# Altium schematic symbol library UUSymbol.SchLib: 140 symbols (part 1 of 2)
Pins are listed as number, name and electrical type; pins without a type are passive.

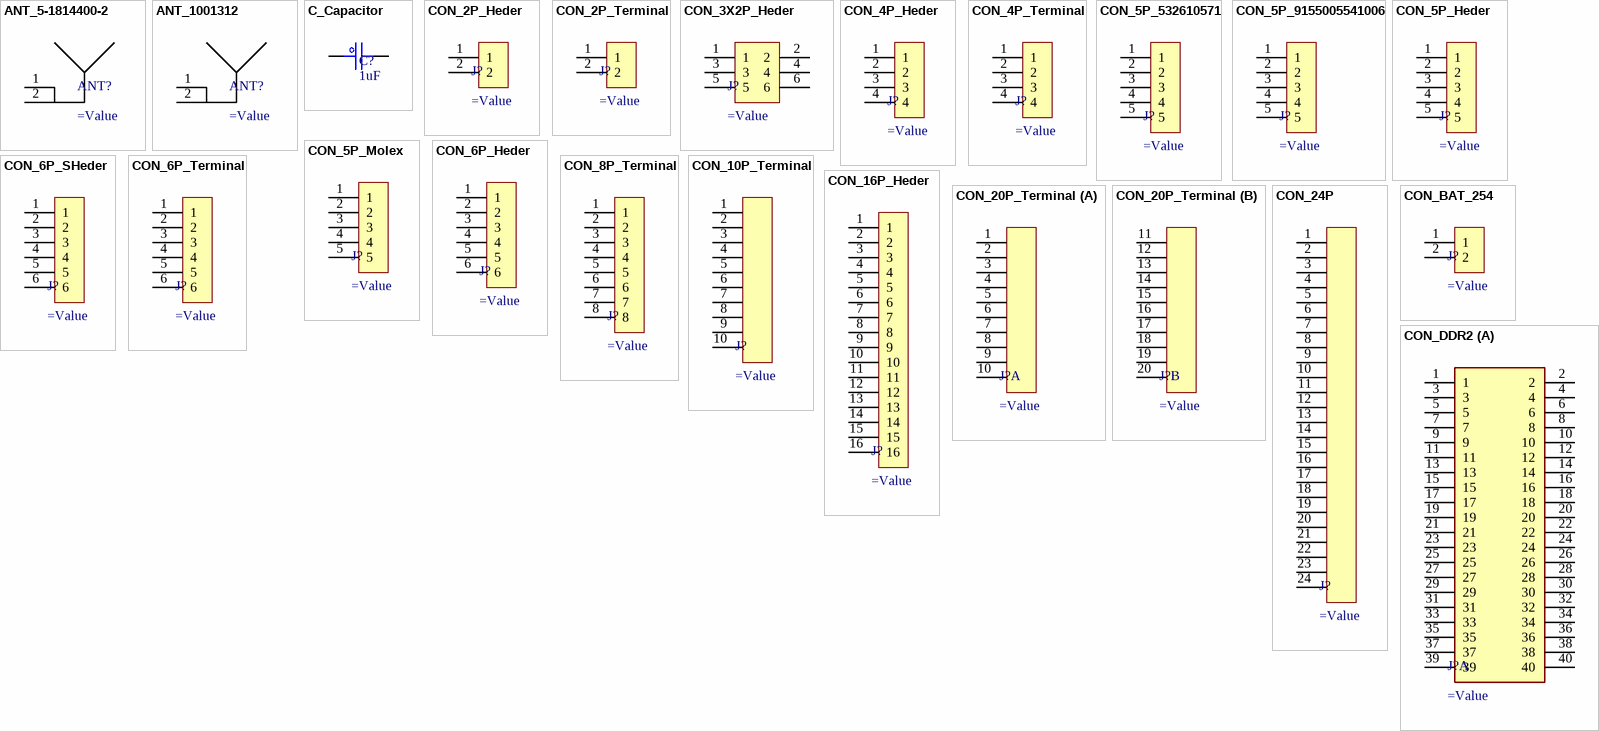
[diagram p0: symbols ANT_5-1814400-2 to CON_DDR2]

## ANT_5-1814400-2
designator ANT?
CONN SMA JACK R/A 50 OHM PCB; PartNumber: 5-1814400-2; Manufacturer: TE Connectivity AMP Connectors; Value: 5-1814400-2; PartID: 17-5-1814400-2CT-ND; PackageReference: SMA; Value3: *
footprint TE-5-1814400-2
pins: 1, 2

## ANT_1001312
designator ANT?
2.4GHz Bluetooth, Wi-Fi, WLAN, Zigbee™ Chip RF Antenna 2.4GHz ~ 2.5GHz 1.72dBi Solder Surface Mount; PartNumber: 1001312; Manufacturer: Ethertronics/AVX; Value: 1001312; PartID: 939-1040-1-ND; PackageReference: 0805; Value3: *
footprint ATN_1001312 (Chip Inductor, 2-Leads, Body 2.00x1.20mm, IPC High Density)
pins: 1, 2

## C_Capacitor
designator C?, comment 1uF
Capacitor; Manufacturer: *; PackageReference: 0402; PartID: *; PartNumber: *; Value2: *; Value: 1uF; Value3: *
footprint C_0402 (Chip Capacitor, 2-Leads, Body 1.00x0.50mm, IPC Medium Density)
footprint C_0603 (Chip Capacitor, 2-Leads, Body 1.60x0.75mm, IPC Medium Density)
footprint C_0805 (Chip Capacitor, 2-Leads, Body 2.00x1.25mm, IPC Medium Density)
footprint C_1206 (Chip Capacitor, 2-Leads, Body 3.10x1.60mm, IPC Medium Density)
footprint C_0201 (Chip Capacitor, 2-Leads, Body 0.60x0.30mm, IPC High Density)
pins: 1, 2
2 alternate drawings of the same symbol

## CON_2P_Heder
designator J?
Connector 2 position; PartNumber: 796866-2; Manufacturer: TE Connectivity AMP Connectors; Value: 796866-2; PartID: A98302-ND; PackageReference: TERM BLOCK; Value3: *
footprint CON_2P_Header (Connector; Header; 2 Position)
pins: 1, 2

## CON_2P_Terminal
designator J?
TERM BLOCK HDR 2POS 90DEG 3.5MM; PartNumber: 1843790; Manufacturer: Phoenix Contact; Value: 1843790; PartID: 277-5882-ND; PackageReference: *; Value3: *
footprint CON_2P_Terminal (Connector; Terminal 2 Position)
pins: 1, 2

## CON_3X2P_Heder
designator J?
Connector 6 position; PartNumber: *; PartID: *; Manufacturer: *; PackageReference: *; Value: *; Value2: *; Value3: *
footprint CON_3X2P_Header (Connector; Header 6 Position)
pins: 1, 2, 3, 4, 5, 6

## CON_4P_Heder
designator J?
Connector 4 position; PartNumber: *; PartID: *; Manufacturer: *; PackageReference: *; Value: *; Value2: *; Value3: *
footprint CON_4P_Header (Connector; Header 4 Position)
footprint CON_4P_PADSENSOR (Connector; Header 4 Position)
pins: 1, 2, 3, 4

## CON_4P_Terminal
designator J?
TERM BLOCK HDR 4POS 90DEG 3.5MM; PartNumber: 1843813; Manufacturer: Phoenix Contact; Value: 1843813; PartID: 277-6088-ND; PackageReference: *; Value2: *; Value3: *
footprint CON_4P_Terminal (Connector; Header 4 Position)
pins: 1, 2, 3, 4

## CON_5P_532610571
designator J?
CONN HEADER SMD R/A 5POS 1.25MM; PartNumber: 0532610571; Manufacturer: Molex; Value: 0532610571; Value2: AFC12-S05DCC-00; PartID: WM7623CT-ND; PackageReference: 5P; Value3: *
footprint MOLEX_532610571
pins: 1, 2, 3, 4, 5

## CON_5P_9155005541006
designator J?
CONN SPRING BATTERY 5POS R/A SMD; PartNumber: 009155005541006; Manufacturer: AVX; Value: 009155005541006; PartID: 478-5453-1-ND; PackageReference: *; Value2: *; Value3: *
footprint CON_9155005541006 (CONN SPRING BATTERY 5POS R/A SMD)
pins: 1, 2, 3, 4, 5

## CON_5P_Heder
designator J?
Connector 5 position; PartNumber: *; PartID: *; Manufacturer: *; PackageReference: *; Value: *; Value2: *; Value3: *
footprint CON_5P_Header (Connector; Header 5 Position)
pins: 1, 2, 3, 4, 5

## CON_5P_Molex
designator J?
CONN HEADER SMD R/A 5POS 1MM; PartNumber: 5037630591; Manufacturer: Molex; Value: 5037630591; PartID: WM25687CT-ND; PackageReference: 5P; Value2: *; Value3: *
footprint CON_5037630591
pins: 1, 2, 3, 4, 5

## CON_6P_Heder
designator J?
Connector 6 position; PartNumber: *; PartID: *; Manufacturer: *; PackageReference: *; Value: *; Value2: *; Value3: *
footprint CON_6P_Header (Connector; Header 6 Position)
pins: 1, 2, 3, 4, 5, 6

## CON_6P_SHeder
designator J?
CONN HEADER SMD R/A 6POS 2.54MM; PartNumber: M20-8890645; Manufacturer: Harwin Inc.; Value: M20-8890645; PartID: 952-3235-ND; PackageReference: *; Value2: *; Value3: *
pins: 1, 2, 3, 4, 5, 6

## CON_6P_Terminal
designator J?
TERM BLOCK HDR 6POS 90DEG 3.5MM; PartNumber: 1843839; Manufacturer: Phoenix Contact; Value: 1843839; PartID: 277-6291-ND; PackageReference: *; Value2: *; Value3: *
footprint CON_6P_Terminal (Connector; Terminal 6 Position)
pins: 1, 2, 3, 4, 5, 6

## CON_8P_Terminal
designator J?
TERM BLOCK HDR 8POS 90DEG 3.5MM; PartNumber: 1843855; Manufacturer: Phoenix Contact; Value: 1843855; PartID: 277-6092-ND; PackageReference: *; Value2: *; Value3: *
footprint CON_8P_Terminal (Connector; Terminal 8 Position)
pins: 1, 2, 3, 4, 5, 6, 7, 8

## CON_10P_Terminal
designator J?
TERM BLOCK HDR 10POS 90DEG 3.5MM; PartNumber: 1843871; Manufacturer: Phoenix Contact; Value: 1843871; Value3: 1966172; PartID: 277-6521-ND; PackageReference: *; Value2: *
footprint CON_10P_Terminal (Connector; Header 10 Position)
pins: 1, 2, 3, 4, 5, 6, 7, 8, 9, 10

## CON_16P_Heder
designator J?
Connector 6 position; PartNumber: *; PartID: *; Manufacturer: *; PackageReference: *; Value: *; Value2: *; Value3: *
footprint CON_16P_Header (Connector; Header 16 Position)
pins: 1, 2, 3, 4, 5, 6, 7, 8, 9, 10, 11, 12, 13, 14, 15, 16

## CON_20P_Terminal
designator J?
TERM BLOCK HDR 20POS 90DEG 3.5MM; PartNumber: 1843871; Manufacturer: Phoenix Contact; Value: 1843871; Value3: 1966172; PartID: 277-6521-ND; PackageReference: *; Value2: *
footprint CON_20P_Terminal (Connector; Terminal 20 Position)
part A pins: 1, 2, 3, 4, 5, 6, 7, 8, 9, 10
part B pins: 11, 12, 13, 14, 15, 16, 17, 18, 19, 20

## CON_24P
designator J?
CONN FFC FPC 24POS 0.50MM R/A; PartNumber: AYF532435; Manufacturer: Panasonic Electric Works; Value: AYF532435; PartID: 255-3062-1-ND; PackageReference: *; Value2: *
footprint PANASONIC_AYF532435
pins: 1, 2, 3, 4, 5, 6, 7, 8, 9, 10, 11, 12, 13, 14, 15, 16, 17, 18, 19, 20, 21, 22, 23, 24

## CON_BAT_254
designator J?
BATT CONTACT CLIP 18650 1CEL SMD; PartNumber: 254; Manufacturer: Keystone Electronics; Value: 254; PartID: 36-254-ND; PackageReference: *; Value3: *
footprint Keystone_254 (BATT CONTACT CLIP 18650 1CEL SMD)
pins: 1, 2

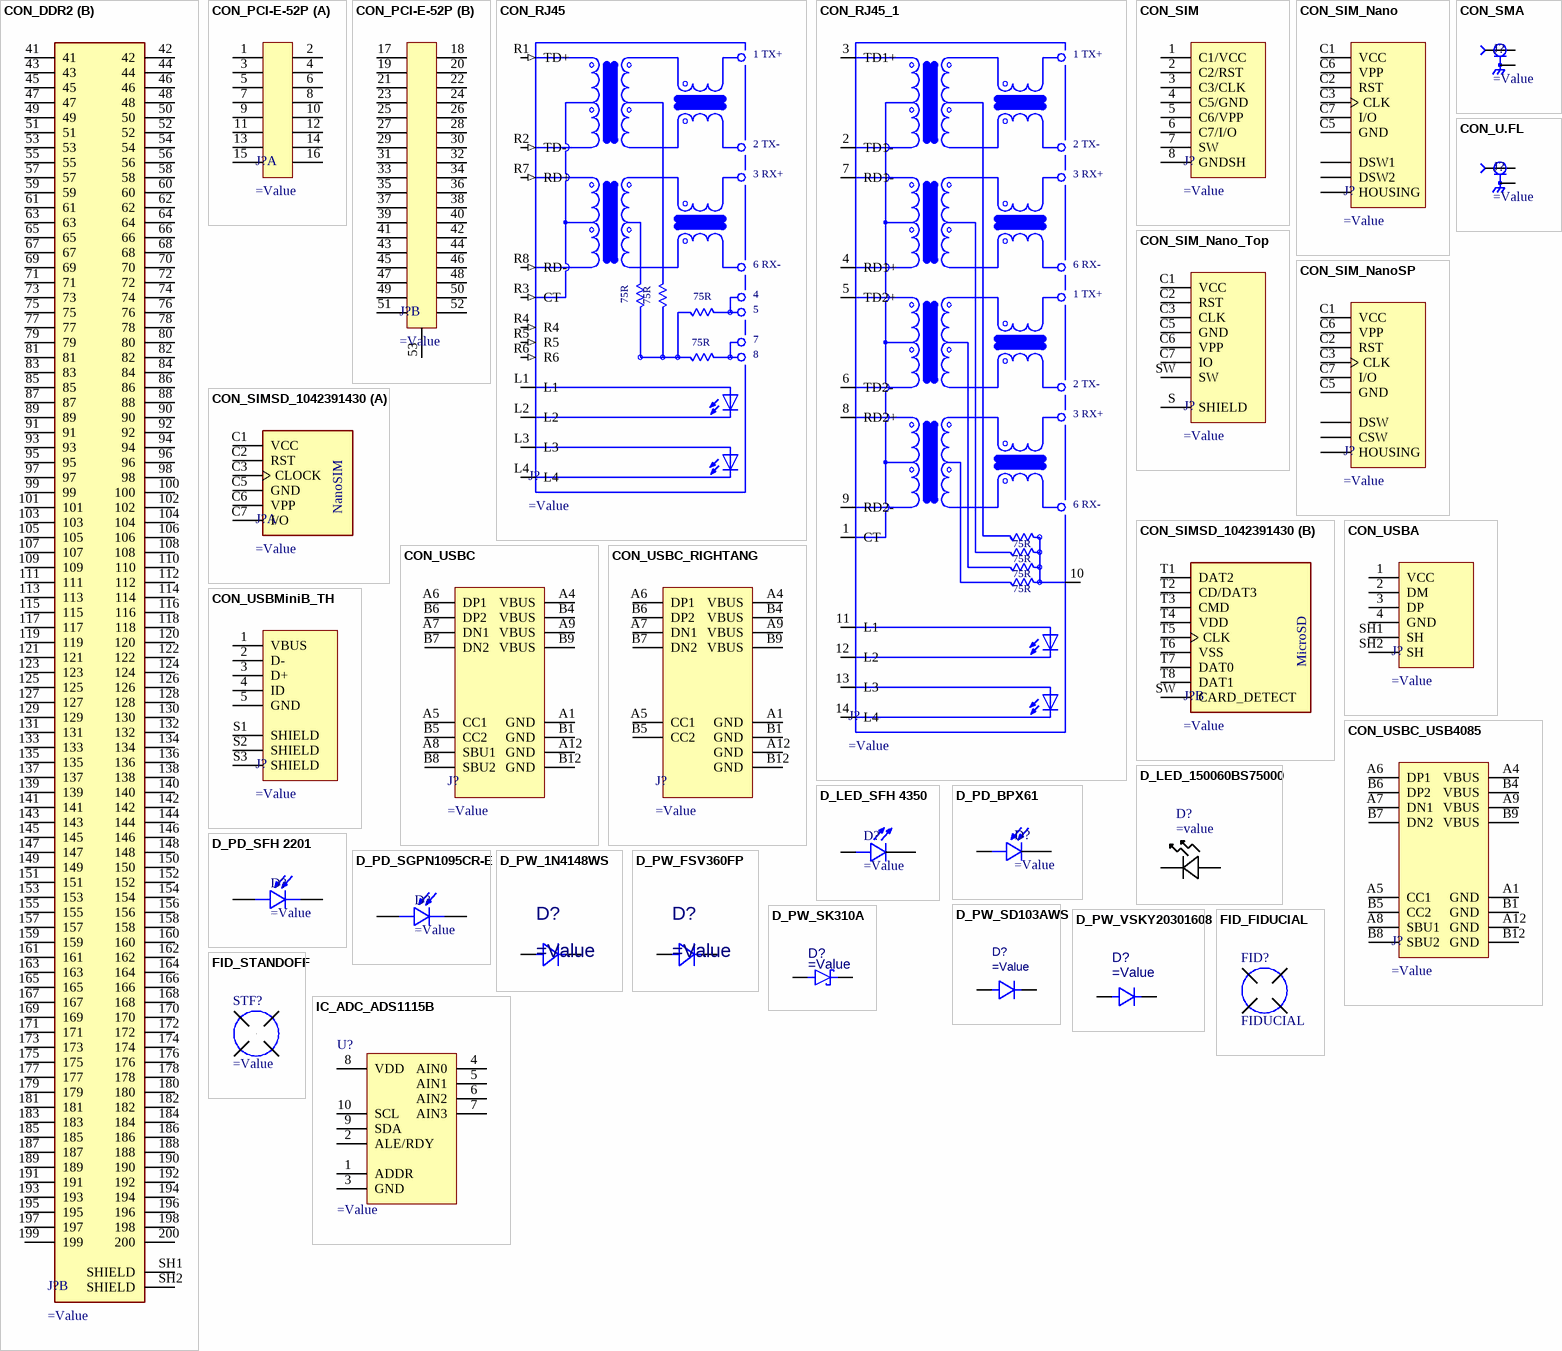
[diagram p1: symbols CON_DDR2 to IC_ADC_ADS1115B]

## CON_DDR2
designator J?
CONN SKT SODIMM 200POS R/A SMD; PartNumber: 1473149-4; Manufacturer: TE Connectivity AMP Connectors; Value: 1473149-4; PartID: A114854-ND; PackageReference: *; Value2: *; Value3: *
footprint TE_1473149-4
footprint DDR2-SO-DIMM
part A pins: 1, 2, 3, 4, 5, 6, 7, 8, 9, 10, 11, 12, 13, 14, 15, 16, 17, 18, 19, 20, 21, 22, 23, 24, 25, 26, 27, 28, 29, 30, 31, 32, 33, 34, 35, 36, 37, 38, 39, 40
part B pins: 41, 42, 43, 44, 45, 46, 47, 48, 49, 50, 51, 52, 53, 54, 55, 56, 57, 58, 59, 60, 61, 62, 63, 64, 65, 66, 67, 68, 69, 70, 71, 72, 73, 74, 75, 76, 77, 78, 79, 80, 81, 82, 83, 84, 85, 86, 87, 88, 89, 90, 91, 92, 93, 94, 95, 96, 97, 98, 99, 100, 101, 102, 103, 104, 105, 106, 107, 108, 109, 110, 111, 112, 113, 114, 115, 116, 117, 118, 119, 120, 121, 122, 123, 124, 125, 126, 127, 128, 129, 130, 131, 132, 133, 134, 135, 136, 137, 138, 139, 140, 141, 142, 143, 144, 145, 146, 147, 148, 149, 150, 151, 152, 153, 154, 155, 156, 157, 158, 159, 160, 161, 162, 163, 164, 165, 166, 167, 168, 169, 170, 171, 172, 173, 174, 175, 176, 177, 178, 179, 180, 181, 182, 183, 184, 185, 186, 187, 188, 189, 190, 191, 192, 193, 194, 195, 196, 197, 198, 199, 200, SH1 SHIELD, SH2 SHIELD

## CON_PCI-E-52P
designator J?
CONN PCI EXP MINI FEMALE 52POS; PartNumber: 2041119-1; Manufacturer: TE Connectivity AMP Connectors; Value: 2041119-1; PartID: A108265CT-ND; PackageReference: *; Value2: *; Value3: *
footprint TE_2041119-1
footprint PCIeMini-GF-2D-800-1K-S52
part A pins: 1, 2, 3, 4, 5, 6, 7, 8, 9, 10, 11, 12, 13, 14, 15, 16
part B pins: 17, 18, 19, 20, 21, 22, 23, 24, 25, 26, 27, 28, 29, 30, 31, 32, 33, 34, 35, 36, 37, 38, 39, 40, 41, 42, 43, 44, 45, 46, 47, 48, 49, 50, 51, 52, 53

## CON_RJ45
designator J?
CONN JACK 1PORT 100 BASE-T PCB; PartNumber: RB1-125BAG1A; Manufacturer: WIZnet; Value: RB1-125BAG1A; PartID: 1278-1011-ND; PackageReference: *; Value2: *; Value3: *
footprint WIZNET_RB1-125BAG1A
pins: L1, L2, L3, L4, R1 TD+ (in), R2 TD- (in), R3 CT (in), R4 (in), R5 (in), R6 (in), R7 RD+ (in), R8 RD- (in)
text: 1 TX+; 2 TX-; 3 RX+; 6 RX-; 75R; 4; 5; 7; 8

## CON_RJ45_1
designator J?
RJ45 RJReceptacle 1 Internal oscillator included Internal oscillator included Plugin Ethernet Connectors/Modular Connectors (RJ45 RJ11) ROHS; PartNumber: HY911103A; Manufacturer: HANRUN(Zhongshan HanRun Elec); Value: HY911103A; PartID: C55679; PackageReference: *; Value2: *; Value3: *
footprint HY911103A_HAN
pins: 1 CT, 2 TD1-, 3 TD1+, 4 RD1+, 5 TD2+, 6 TD2-, 7 RD1-, 8 RD2+, 9 RD2-, 10 CT, 11 L1, 12 L2, 13 L3, 14 L4
text: 1 TX+; 2 TX-; 3 RX+; 6 RX-; 75R

## CON_SIM
designator J?
PUSH-PUSH MICRO SIM CONNECTOR; PartNumber: 2822541-1; Manufacturer: TE Connectivity AMP Connectors; Value: 2822541-1; PartID: A141365CT-ND; PackageReference: *; Value2: *; Value3: *
footprint TE_2822541-1
pins: 1 C1/VCC, 2 C2/RST, 3 C3/CLK, 4 C5/GND, 5 C6/VPP, 6 C7/I/O, 7 SW, 8 GNDSH

## CON_SIM_Nano
designator J?
CONN NANOSIM CARD PUSH EJECT; PartNumber: SF70S006VBAR2000; Manufacturer: JAE Electronics; Value: SF70S006VBAR2000; PartID: 670-2845-1-ND; PackageReference: *; Value2: *; Value3: *
footprint JAE_SF70S006VBAR2000
pins: C1 VCC, C2 RST, C3 CLK, C5 GND, C6 VPP, C7 I/O, DSW1, DSW2, HD1 HOUSING, HD2 HOUSING, HD3 HOUSING, HD4 HOUSING, HD5 HOUSING, HD6 HOUSING, HD7 HOUSING

## CON_SIM_Nano_Top
designator J?
CONN SIM NANO HINGED 6P W/SWITCH; PartNumber: SIM8060-6-1-14-00-A; Manufacturer: GCT; Value: SIM8060-6-1-14-00-A; PartID: 640-SIM8060611400A; PackageReference: *; Value2: *; Value3: *
footprint SIM8060-6-1-14-00-A_REVA (Nano SIM Card Connector, Hinged, SMT, 6 Pins, 1.43mm profile)
pins: C1 VCC, C2 RST, C3 CLK, C5 GND, C6 VPP, C7 IO, S SHIELD, SW

## CON_SIM_NanoSP
designator J?
NANO SIM CARD CONNECTOR; PartNumber: SF72S006VBDR2500; Manufacturer: JAE Electronics; Value: SF72S006VBDR2500; PartID: 670-2967-1-ND; PackageReference: *; Value2: *; Value3: *
footprint JAE_SF72S006VBDR2500
pins: C1 VCC, C2 RST, C3 CLK, C5 GND, C6 VPP, C7 I/O, CSW, DSW, SH HOUSING

## CON_SIMSD_1042391430
designator J?
IC CPLD 64MC 4.6NS 56BGA; PartNumber: XC2C64A-5CP56C; Manufacturer: AMD Xilinx; Value: XC2C64A-5CP56C; PartID: 217-XC2C64A-5CP56C; PackageReference: CSP-56; Value2: *; Value3: *
footprint MOLEX_1042391430
part A pins: C1 VCC, C2 RST, C3 CLOCK, C5 GND, C6 VPP, C7 I/O
part B pins: SW CARD_DETECT, T1 DAT2, T2 CD/DAT3, T3 CMD, T4 VDD, T5 CLK, T6 VSS, T7 DAT0, T8 DAT1
part A text: NanoSIM
part B text: MicroSD

## CON_SMA
designator J?
CONN RP-SMA JACK R/A 50 OHM PCB; PartNumber: PCB.RPSMAFRA.HT; Manufacturer: Taoglas Limited; Value: PCB.RPSMAFRA.HT; PartID: 931-1360-ND; PackageReference: SMA_M; Value3: *
footprint SAMTEC_SMA-J-P-X-RA-TH1
pins: 1, 2

## CON_U.FL
designator J?
CONN UMC RCPT STR 50 OHM SMD; PartNumber: 0734120114; Manufacturer: Molex; Value: 0734120114; PartID: WM3894CT-ND; PackageReference: U.FL; Value3: *
footprint MOLEX_0734120114
pins: 1, 2

## CON_USBA
designator J?
CONN RCPT USB2.0 TYPEA 4POS VERT; PartNumber: 1734366-1; Manufacturer: TE Connectivity AMP Connectors; Value: 1734366-1; PartID: A114947-ND; PackageReference: *; Value2: *; Value3: *
footprint TE_1734366-1
pins: 1 VCC, 2 DM, 3 DP, 4 GND, SH1 SH, SH2 SH

## CON_USBC
designator J?
CONN RCPT USB2.0 TYPE C 24POS RA; PartNumber: 2137160001; Manufacturer: Molex; Value: 2137160001; PartID: 900-2137160001CT-ND; PackageReference: *; Value2: *; Value3: *
footprint 2137160001_MOL_2137160001(Primary)
pins: A1 GND, A4 VBUS, A5 CC1, A6 DP1, A7 DN1, A8 SBU1, A9 VBUS, A12 GND, B1 GND, B4 VBUS, B5 CC2, B6 DP2, B7 DN2, B8 SBU2, B9 VBUS, B12 GND

## CON_USBC_RIGHTANG
designator J?
CONN RCPT USB2.0 TYPE C 24POS RA; PartNumber: 2169890001; Manufacturer: Molex; Value: 2169890001; Value2: KUSBX-SL-CS1N14-B; PartID: 900-2169890001CT-ND; PackageReference: *; Value3: *
footprint 216989-0001_MOL_2169890001
pins: A1 GND, A4 VBUS, A5 CC1, A6 DP1, A7 DN1, A9 VBUS, A12 GND, B1 GND, B4 VBUS, B5 CC2, B6 DP2, B7 DN2, B9 VBUS, B12 GND

## CON_USBC_USB4085
designator J?
CONN RCPT USB2.0 TYPE C 16+8POS; PartNumber: USB4085-GF-A; Manufacturer: GCT; Value: USB4085-GF-A; PartID: 2073-USB4085-GF-ACT-ND; PackageReference: *; Value2: *; Value3: *
footprint GCT_USB4085-GF-A_REVA4
pins: A1 GND, A4 VBUS, A5 CC1, A6 DP1, A7 DN1, A8 SBU1, A9 VBUS, A12 GND, B1 GND, B4 VBUS, B5 CC2, B6 DP2, B7 DN2, B8 SBU2, B9 VBUS, B12 GND

## CON_USBMiniB_TH
designator J?
USB 2.0 1 Brick nogging 5 Female Micro-B SMD USB Connectors ROHS; PartNumber: 1051330011; Manufacturer: Molex; Value: 1051330011; PartID: C586226; PackageReference: *; Value2: *; Value3: *
footprint MOLEX_105133-0011
pins: 1 VBUS, 2 D-, 3 D+, 4 ID, 5 GND, S1 SHIELD, S2 SHIELD, S3 SHIELD

## D_LED_150060BS75000
designator D?
LED BLUE CLEAR 0603 SMD; Manufacturer: Wurth Electronics; Value: 150060VS75000; PackageReference: 0603; PartID: 732-4980-1-ND; PartNumber: 150060VS75000
footprint LED_0VS75000_WRE
pins: 1, 2

## D_LED_SFH 4350
designator D?
EMITTER IR 860NM 100MA RADIAL; Manufacturer: OSRAM Opto Semiconductors Inc.; PartNumber: SFH 4350; PartID: 475-1460-ND; PackageReference: *; Value: SFH 4350; Value3: *
footprint XDCR_SFH_4350
pins: 1 C, 2 A

## D_PD_BPX61
designator D?
SENSOR PHOTODIODE 850NM TO39-2; PartNumber: BPX 61; Manufacturer: OSRAM Opto Semiconductors Inc.; Value: BPX 61; PartID: 475-1350-ND; PackageReference: *; Value3: *
footprint TO254P950H570-2
pins: A, C

## D_PD_SFH 2201
designator D?
SENSOR PHOTODIODE 950NM 2SMD; Manufacturer: OSRAM Opto Semiconductors Inc.; PartNumber: SFH 2201; PartID: 475-3537-1-ND; PackageReference: SMD-2; Value: SFH 2201; Value3: *
footprint XDCR_SFH_2201
pins: 1, 2

## D_PD_SGPN1095CR-E
designator D?
PartNumber: SGPN1095CR-E; Value: SGPN1095CR-E; PartID: *; Manufacturer: *; PackageReference: *; Value3: *
footprint PD_SGPN1095CR-E (Connector; Header; 2 Position)
pins: 1, 2

## D_PW_1N4148WS
designator D?
SWITCHING DIODE GENPURP SOD323-H; Manufacturer: Vishay; Value: 1N4148WS-V-GS08; PackageReference: SOD323-H; PartID: 1N4148WS-HG3-08GICT-ND; PartNumber: 1N4148WS-V-GS08
footprint SOD323_VIS
pins: 1, 2
1 alternate drawing of the same symbol

## D_PW_FSV360FP
designator D?
DIODE SCHOTTKY 60V 3A SOD123HE; Manufacturer: ON Semiconductor; Value: FSV360FP; PackageReference: SOD-123HE; PartID: FSV360FPCT-ND; PartNumber: FSV360FP
footprint SOD-123EP_425A01
pins: 1, 2
1 alternate drawing of the same symbol

## D_PW_SD103AWS
designator D?
DIODE SCHOTTKY 40V 2A 0603; Manufacturer: Slkor(SLKORMICRO Elec.); Value: SD103AWS; PackageReference: SOD-323; PartID: C513472; PartNumber: SD103AWS
footprint SOD323 (SODFL, 2-Leads, Body 1.25x2.50mm, IPC Low Density)
pins: 1, 2
1 alternate drawing of the same symbol

## D_PW_SK310A
designator D?
DIODE SCHOTTKY 100V 3A DO214AC; Manufacturer: Taiwan Semiconductor Corporation; Value: SK310A R2; PartID: 0029-0147-1; PartNumber: SK310A R2
footprint DIOM4325X250N
pins: 1, 2
1 alternate drawing of the same symbol

## D_PW_VSKY20301608
designator D?
DIODE SCHOTTKY 30V 2A 0603; Manufacturer: Vishay General Semiconductor - Diodes Division; Value: VSKY20301608-G4-08; PackageReference: 0603; PartID: 112-VSKY20301608-G4-08CT-ND; PartNumber: VSKY20301608-G4-08
footprint DFN119P160X30-2M (DFN, 2-Leads, Body 0.80x1.60mm, Pitch 1.19mm, IPC Low Density)
pins: 1, 2
1 alternate drawing of the same symbol

## FID_FIDUCIAL
designator FID?, comment FIDUCIAL  (no BOM)
Manufacturer: mindek30@gmail.com; Value: Non SE; PartNumber: =PCB_PN+'_'+PCBRev; PartID: =PCBRev; PackageReference: Non SE
footprint FID

## FID_STANDOFF
designator STF?
ROUND STANDOFF M2X0.4 STEEL 2MM; Manufacturer: Würth Elektronik; PartNumber: 9774020243R; Value: 9774020243R; PartID: 732-7073-1-ND; PackageReference: *; Value2: *; Value3: *
footprint StandOff
pins: 1

## IC_ADC_ADS1115B
designator U?
DUAL CHANNEL DAC 16BIT; PartNumber: ADS1115BQDGSRQ1; Manufacturer: Texas Instruments; Value: ADS1115BQDGSRQ1; PartID: 296-45221-1-ND; PackageReference: VSSOP-10; Value2: *; Value3: *
footprint SOP50P490X110-10N
pins: 1 ADDR, 2 ALE/RDY, 3 GND, 4 AIN0, 5 AIN1, 6 AIN2, 7 AIN3, 8 VDD, 9 SDA, 10 SCL

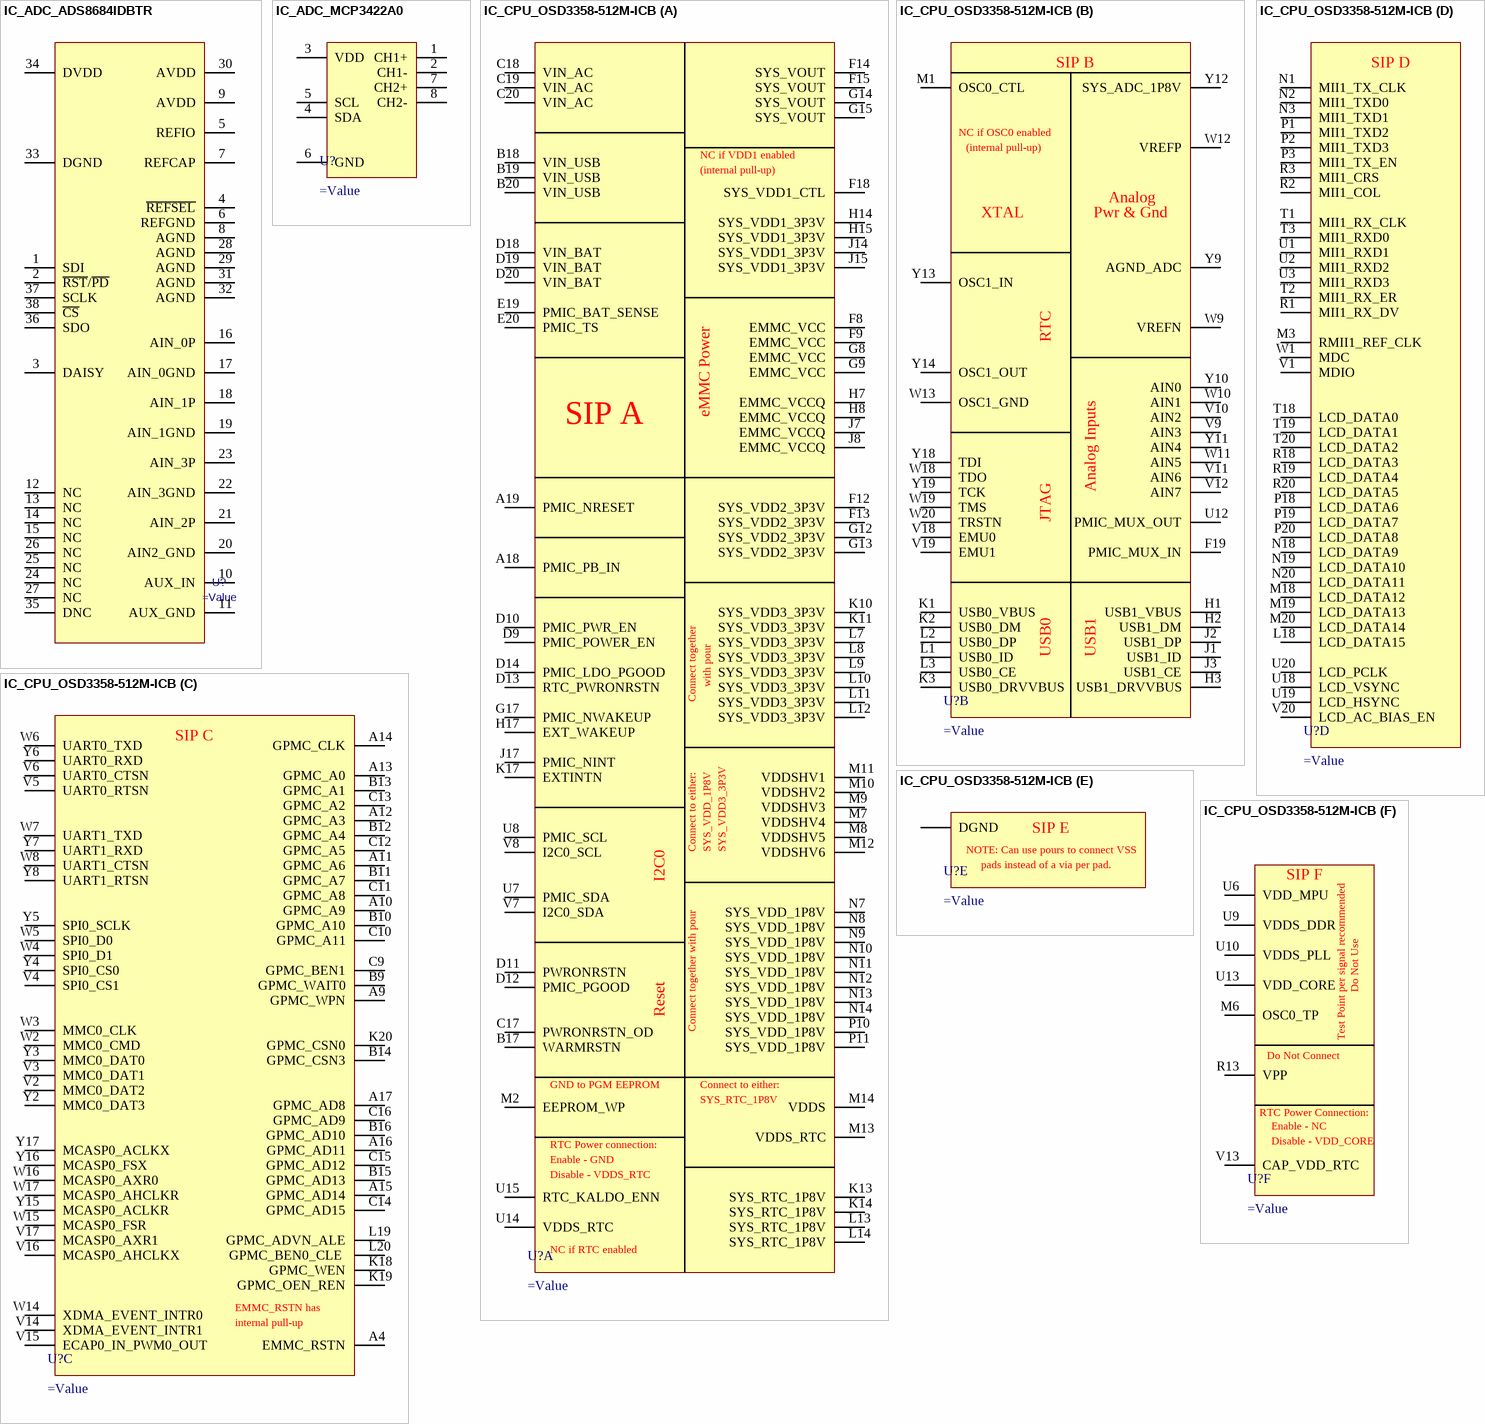
[diagram p2: symbols IC_ADC_ADS8684IDBTR to IC_CPU_OSD3358-512M-ICB]

## IC_ADC_ADS8684IDBTR
designator U?
IC ADC 16BIT SAR 38TSSOP; Manufacturer: Texas Instruments; Value: ADS8684IDBTR; Value3: TIPD166; PackageReference: 38-TSSOP; PartID: 296-39875-1-ND; PartNumber: ADS8684IDBTR
footprint DBT0038A_N_TEX
pins: 1 SDI, 2 ~{RST}/~{PD}, 3 DAISY, 4 ~{REFSEL}, 5 REFIO, 6 REFGND, 7 REFCAP, 8 AGND, 9 AVDD, 10 AUX_IN, 11 AUX_GND, 12 NC, 13 NC, 14 NC, 15 NC, 16 AIN_0P, 17 AIN_0GND, 18 AIN_1P, 19 AIN_1GND, 20 AIN2_GND, 21 AIN_2P, 22 AIN_3GND, 23 AIN_3P, 24 NC, 25 NC, 26 NC, 27 NC, 28 AGND, 29 AGND, 30 AVDD, 31 AGND, 32 AGND, 33 DGND, 34 DVDD, 35 DNC, 36 SDO, 37 SCLK, 38 ~{CS}

## IC_ADC_MCP3422A0
designator U?
IC ADC 18BIT SIGMA-DELTA 8DFN; PartNumber: MCP3422A0-E/MC; Manufacturer: Microchip Technology; Value: MCP3422A0-E/MC; PartID: MCP3422A0-E/MC-ND; PackageReference: DFN-8; Value2: *; Value3: *
footprint SON50P200X300X100-9N
pins: 1 CH1+, 2 CH1-, 3 VDD, 4 SDA, 5 SCL, 6 GND, 7 CH2+, 8 CH2-

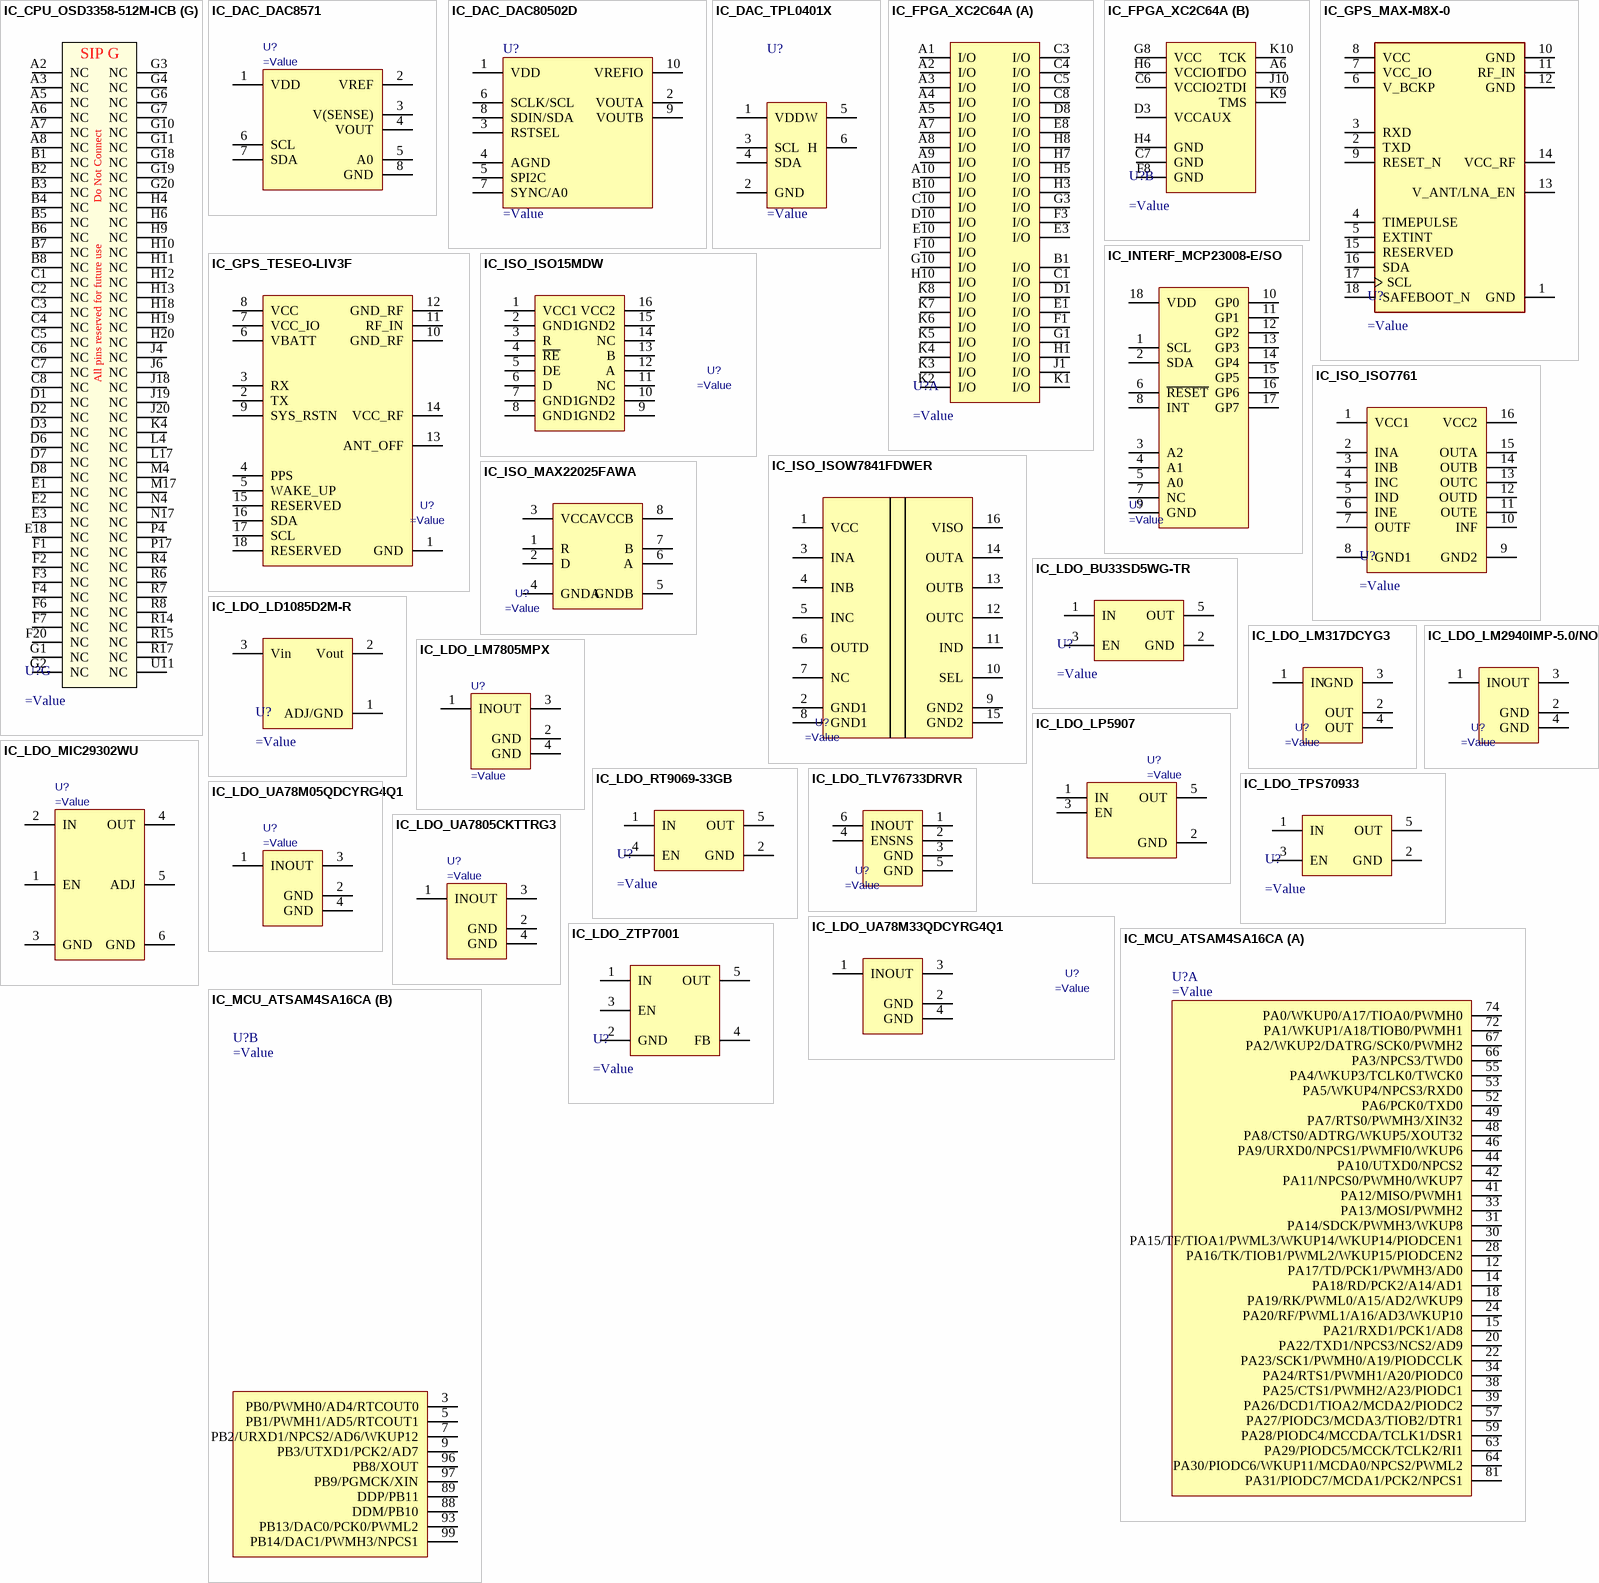
[diagram p3: symbols IC_CPU_OSD3358-512M-ICB to IC_MCU_ATSAM4SA16CA]

## IC_CPU_OSD3358-512M-ICB
designator U?
Octavo Systems OSD335x Family SiP:  27mm x 27mm, 1.27mm pitch 400 pin BGA contains AM3358, 512MB DDR3, TPS65217C, TL5209, 4KB EEPROM, 4GB eMMC, 24MHz oscillator, and passives.  Industrial Temperature (case):  -40C to 85C.; Value: OSD3358-512M-ICB; Manufacturer: Octavo Systems; PackageReference: FBGA-400; PartID: *; PartNumber: OSD3358-512M-ICB
footprint BGA_20x20_400_1p27mm (400 pin 1.27mm pitch footprint)
part A pins: A18 PMIC_PB_IN, A19 PMIC_NRESET, B17 WARMRSTN, B18 VIN_USB, B19 VIN_USB, B20 VIN_USB, C17 PWRONRSTN_OD, C18 VIN_AC, C19 VIN_AC, C20 VIN_AC, D9 PMIC_POWER_EN, D10 PMIC_PWR_EN, D11 PWRONRSTN, D12 PMIC_PGOOD, D13 RTC_PWRONRSTN, D14 PMIC_LDO_PGOOD, D18 VIN_BAT, D19 VIN_BAT, D20 VIN_BAT, E19 PMIC_BAT_SENSE, E20 PMIC_TS, F8 EMMC_VCC, F9 EMMC_VCC, F12 SYS_VDD2_3P3V, F13 SYS_VDD2_3P3V, F14 SYS_VOUT, F15 SYS_VOUT, F18 SYS_VDD1_CTL, G8 EMMC_VCC, G9 EMMC_VCC, G12 SYS_VDD2_3P3V, G13 SYS_VDD2_3P3V, G14 SYS_VOUT, G15 SYS_VOUT, G17 PMIC_NWAKEUP, H7 EMMC_VCCQ, H8 EMMC_VCCQ, H14 SYS_VDD1_3P3V, H15 SYS_VDD1_3P3V, H17 EXT_WAKEUP, J7 EMMC_VCCQ, J8 EMMC_VCCQ, J14 SYS_VDD1_3P3V, J15 SYS_VDD1_3P3V, J17 PMIC_NINT, K10 SYS_VDD3_3P3V, K11 SYS_VDD3_3P3V, K13 SYS_RTC_1P8V, K14 SYS_RTC_1P8V, K17 EXTINTN, L7 SYS_VDD3_3P3V, L8 SYS_VDD3_3P3V, L9 SYS_VDD3_3P3V, L10 SYS_VDD3_3P3V, L11 SYS_VDD3_3P3V, L12 SYS_VDD3_3P3V, L13 SYS_RTC_1P8V, L14 SYS_RTC_1P8V, M2 EEPROM_WP, M7 VDDSHV4, M8 VDDSHV5, M9 VDDSHV3, M10 VDDSHV2, M11 VDDSHV1, M12 VDDSHV6, M13 VDDS_RTC, M14 VDDS, N7 SYS_VDD_1P8V, N8 SYS_VDD_1P8V, N9 SYS_VDD_1P8V, N10 SYS_VDD_1P8V, N11 SYS_VDD_1P8V, N12 SYS_VDD_1P8V, N13 SYS_VDD_1P8V, N14 SYS_VDD_1P8V, P10 SYS_VDD_1P8V, P11 SYS_VDD_1P8V, U7 PMIC_SDA, U8 PMIC_SCL, U14 VDDS_RTC, U15 RTC_KALDO_ENN, V7 I2C0_SDA, V8 I2C0_SCL
part B pins: F19 PMIC_MUX_IN, H1 USB1_VBUS, H2 USB1_DM, H3 USB1_DRVVBUS, J1 USB1_ID, J2 USB1_DP, J3 USB1_CE, K1 USB0_VBUS, K2 USB0_DM, K3 USB0_DRVVBUS, L1 USB0_ID, L2 USB0_DP, L3 USB0_CE, M1 OSC0_CTL, U12 PMIC_MUX_OUT, V9 AIN3, V10 AIN2, V11 AIN6, V12 AIN7, V18 EMU0, V19 EMU1, W9 VREFN, W10 AIN1, W11 AIN5, W12 VREFP, W13 OSC1_GND, W18 TDO, W19 TMS, W20 TRSTN, Y9 AGND_ADC, Y10 AIN0, Y11 AIN4, Y12 SYS_ADC_1P8V, Y13 OSC1_IN, Y14 OSC1_OUT, Y18 TDI, Y19 TCK
part C pins: A4 EMMC_RSTN, A9 GPMC_WPN, A10 GPMC_A9, A11 GPMC_A6, A12 GPMC_A3, A13 GPMC_A0, A14 GPMC_CLK, A15 GPMC_AD14, A16 GPMC_AD11, A17 GPMC_AD8, B9 GPMC_WAIT0, B10 GPMC_A10, B11 GPMC_A7, B12 GPMC_A4, B13 GPMC_A1, B14 GPMC_CSN3, B15 GPMC_AD13, B16 GPMC_AD10, C9 GPMC_BEN1, C10 GPMC_A11, C11 GPMC_A8, C12 GPMC_A5, C13 GPMC_A2, C14 GPMC_AD15, C15 GPMC_AD12, C16 GPMC_AD9, K18 GPMC_WEN, K19 GPMC_OEN_REN, K20 GPMC_CSN0, L19 GPMC_ADVN_ALE, L20 GPMC_BEN0_CLE , V2 MMC0_DAT2, V3 MMC0_DAT1, V4 SPI0_CS1, V5 UART0_RTSN, V6 UART0_CTSN, V14 XDMA_EVENT_INTR1, V15 ECAP0_IN_PWM0_OUT, V16 MCASP0_AHCLKX, V17 MCASP0_AXR1, W2 MMC0_CMD, W3 MMC0_CLK, W4 SPI0_D1, W5 SPI0_D0, W6 UART0_TXD, W7 UART1_TXD, W8 UART1_CTSN, W14 XDMA_EVENT_INTR0, W15 MCASP0_FSR, W16 MCASP0_AXR0, W17 MCASP0_AHCLKR, Y2 MMC0_DAT3, Y3 MMC0_DAT0, Y4 SPI0_CS0, Y5 SPI0_SCLK, Y6 UART0_RXD, Y7 UART1_RXD, Y8 UART1_RTSN, Y15 MCASP0_ACLKR, Y16 MCASP0_FSX, Y17 MCASP0_ACLKX
part D pins: L18 LCD_DATA15, M3 RMII1_REF_CLK, M18 LCD_DATA12, M19 LCD_DATA13, M20 LCD_DATA14, N1 MII1_TX_CLK, N2 MII1_TXD0, N3 MII1_TXD1, N18 LCD_DATA9, N19 LCD_DATA10, N20 LCD_DATA11, P1 MII1_TXD2, P2 MII1_TXD3, P3 MII1_TX_EN, P18 LCD_DATA6, P19 LCD_DATA7, P20 LCD_DATA8, R1 MII1_RX_DV, R2 MII1_COL, R3 MII1_CRS, R18 LCD_DATA3, R19 LCD_DATA4, R20 LCD_DATA5, T1 MII1_RX_CLK, T2 MII1_RX_ER, T3 MII1_RXD0, T18 LCD_DATA0, T19 LCD_DATA1, T20 LCD_DATA2, U1 MII1_RXD1, U2 MII1_RXD2, U3 MII1_RXD3, U18 LCD_VSYNC , U19 LCD_HSYNC, U20 LCD_PCLK , V1 MDIO, V20 LCD_AC_BIAS_EN, W1 MDC
part E pins: A1 DGND, A20 DGND, D4 DGND, D5 DGND, D15 DGND, D16 DGND, D17 DGND, E4 DGND, E5 DGND, E6 DGND, E7 DGND, E8 DGND, E9 DGND, E10 DGND, E11 DGND, E12 DGND, E13 DGND, E14 DGND, E15 DGND, E16 DGND, E17 DGND, F5 DGND, F10 DGND, F11 DGND, F16 DGND, F17 DGND, G5 DGND, G16 DGND, H5 DGND, H16 DGND, J5 DGND, J9 DGND, J10 DGND, J11 DGND, J12 DGND, J13 DGND, J16 DGND, K5 DGND, K6 DGND, K7 DGND, K8 DGND, K9 DGND, K12 DGND, K15 DGND, K16 DGND, L5 DGND, L6 DGND, L15 DGND, L16 DGND, M5 DGND, M15 DGND, M16 DGND, N5 DGND, N6 DGND, N15 DGND, N16 DGND, P5 DGND, P6 DGND, P7 DGND, P8 DGND, P9 DGND, P12 DGND, P13 DGND, P14 DGND, P15 DGND, P16 DGND, R5 DGND, R9 DGND, R10 DGND, R11 DGND, R12 DGND, R16 DGND, T4 DGND, T5 DGND, T6 DGND, T7 DGND, T8 DGND, T9 DGND, T10 DGND, T11 DGND, T12 DGND, T13 DGND, T14 DGND, T15 DGND, T16 DGND, T17 DGND, U4 DGND, U5 DGND, U16 DGND, U17 DGND "U17", Y1 DGND, Y20 DGND
part F pins: M6 OSC0_TP, R13 VPP, U6 VDD_MPU, U9 VDDS_DDR, U10 VDDS_PLL, U13 VDD_CORE, V13 CAP_VDD_RTC
part G pins: A2 NC, A3 NC, A5 NC, A6 NC, A7 NC, A8 NC, B1 NC, B2 NC, B3 NC, B4 NC, B5 NC, B6 NC, B7 NC, B8 NC, C1 NC, C2 NC, C3 NC, C4 NC, C5 NC, C6 NC, C7 NC, C8 NC, D1 NC, D2 NC, D3 NC, D6 NC, D7 NC, D8 NC, E1 NC, E2 NC, E3 NC, E18 NC, F1 NC, F2 NC, F3 NC, F4 NC, F6 NC, F7 NC, F20 NC, G1 NC, G2 NC, G3 NC, G4 NC, G6 NC, G7 NC, G10 NC, G11 NC, G18 NC, G19 NC, G20 NC, H4 NC, H6 NC, H9 NC, H10 NC, H11 NC, H12 NC, H13 NC, H18 NC, H19 NC, H20 NC, J4 NC, J6 NC, J18 NC, J19 NC, J20 NC, K4 NC, L4 NC, L17 NC, M4 NC, M17 NC, N4 NC, N17 NC, P4 NC, P17 NC, R4 NC, R6 NC, R7 NC, R8 NC, R14 NC, R15 NC, R17 NC, U11 NC
part A text: NC if VDD1 enabled; (internal pull-up); eMMC Power; SIP A; with pour; Connect together; Connect to either:; I2C0; Reset; Connect together with pour; GND to PGM EEPROM; RTC Power connection:; Enable - GND; Disable - VDDS_RTC; NC if RTC enabled
part B text: SIP B; NC if OSC0 enabled; (internal pull-up); Analog; XTAL; Pwr & Gnd; RTC; Analog Inputs; JTAG; USB0; USB1
part C text: SIP C; EMMC_RSTN has; internal pull-up
part D text: SIP D
part E text: SIP E; NOTE: Can use pours to connect VSS; pads instead of a via per pad.
part F text: SIP F; Do Not Use; Test Point per signal recommended; Do Not Connect; RTC Power Connection:; Enable - NC; Disable - VDD_CORE
part G text: SIP G; Do Not Connect; All pins reserved for future use

## IC_DAC_DAC8571
designator U?
IC DAC 16BIT V-OUT 8VSSOP; Manufacturer: Texas Instruments; PartNumber: DAC8571IDGK; Value: DAC8571IDGK; PackageReference: 8SOIC; PartID: 296-26051-5-ND
footprint SOP65P490X110-8N
pins: 1 VDD, 2 VREF, 3 V(SENSE), 4 VOUT, 5 A0, 6 SCL, 7 SDA, 8 GND

## IC_DAC_DAC80502D
designator U?
DUAL CHANNEL DAC 16BIT; PartNumber: DAC80502DRXT; Manufacturer: Texas Instruments; Value: DAC80502DRXT; PartID: 296-DAC80502DRXTCT-ND; PackageReference: WSON-10; Value2: *; Value3: *
footprint SON50P250X250X80-10N
pins: 1 VDD, 2 VOUTA, 3 RSTSEL, 4 AGND, 5 SPI2C, 6 SCLK/SCL, 7 SYNC/A0, 8 SDIN/SDA, 9 VOUTB, 10 VREFIO

## IC_DAC_TPL0401X
designator U?
IC DGTL POT 10KOHM 128TAP SC70-6; PartNumber: TPL0401A-10QDCKRQ1; Manufacturer: Texas Instruments; Value: TPL0401A-10QDCKRQ1; PartID: 296-45353-1-ND; PackageReference: SC70-6; Value2: *; Value3: *
footprint SOT65P210X110-6N
pins: 1 VDD, 2 GND, 3 SCL, 4 SDA, 5 W, 6 H

## IC_FPGA_XC2C64A
designator U?
IC CPLD 64MC 4.6NS 56BGA; PartNumber: XC2C64A-5CP56C; Manufacturer: AMD Xilinx; Value: XC2C64A-5CP56C; PartID: 217-XC2C64A-5CP56C; PackageReference: CSP-56; Value2: *; Value3: *
footprint CP56_XIL_XC2C64A-5CPG56C
part A pins: A1 I/O, A2 I/O, A3 I/O, A4 I/O, A5 I/O, A7 I/O, A8 I/O, A9 I/O, A10 I/O, B1 I/O, B10 I/O, C1 I/O, C3 I/O, C4 I/O, C5 I/O, C8 I/O, C10 I/O, D1 I/O, D8 I/O, D10 I/O, E1 I/O, E3 I/O, E8 I/O, E10 I/O, F1 I/O, F3 I/O, F10 I/O, G1 I/O, G3 I/O, G10 I/O, H1 I/O, H3 I/O, H5 I/O, H7 I/O, H8 I/O, H10 I/O, J1 I/O, K1 I/O, K2 I/O, K3 I/O, K4 I/O, K5 I/O, K6 I/O, K7 I/O, K8 I/O
part B pins: A6 TDO, C6 VCCIO2, C7 GND, D3 VCCAUX, F8 GND, G8 VCC, H4 GND, H6 VCCIO1, J10 TDI, K9 TMS, K10 TCK

## IC_GPS_MAX-M8X-0
designator U?
MAX-M8 RF Receiver BeiDou, Galileo, GLONASS, GNSS, GPS 1.575GHz -167dBm; Manufacturer: u-blox; Value: MAX-M8W-0; PackageReference: SMD-18 u-blox; PartID: 672-MAX-M8W-0CT-ND; PartNumber: MAX-M8W-0
footprint XCVR_MAX-M8C-0
pins: 1 GND, 2 TXD, 3 RXD, 4 TIMEPULSE, 5 EXTINT, 6 V_BCKP, 7 VCC_IO, 8 VCC, 9 RESET_N, 10 GND, 11 RF_IN, 12 GND, 13 V_ANT/LNA_EN, 14 VCC_RF, 15 RESERVED, 16 SDA, 17 SCL, 18 SAFEBOOT_N

## IC_GPS_TESEO-LIV3F
designator U?
RF RCVR GNSS/GPS 1.575GHZ 18LCC; Manufacturer: STMicroelectronics; Value: TESEO-LIV3F; PackageReference: 18-LCC; PartID: 497-18163-1-ND; PartNumber: TESEO-LIV3F
footprint LCC-18_9P7X10P01
pins: 1 GND, 2 TX, 3 RX, 4 PPS, 5 WAKE_UP, 6 VBATT, 7 VCC_IO, 8 VCC, 9 SYS_RSTN, 10 GND_RF, 11 RF_IN, 12 GND_RF, 13 ANT_OFF, 14 VCC_RF, 15 RESERVED, 16 SDA, 17 SCL, 18 RESERVED

## IC_INTERF_MCP23008-E/SO
designator U?
IC I/O EXPANDER I2C 8B 18SOIC; Manufacturer: Microchip Technology; PartNumber: MCP23008-E/SO; Value: MCP23008-E/SO; PackageReference: 18-SOIC
footprint SOIC127P1030X265-18N
pins: 1 SCL, 2 SDA, 3 A2, 4 A1, 5 A0, 6 ~{RESET}, 7 NC, 8 INT, 9 GND, 10 GP0, 11 GP1, 12 GP2, 13 GP3, 14 GP4, 15 GP5, 16 GP6, 17 GP7, 18 VDD

## IC_ISO_ISO15MDW
designator U?
Isolated 3.3-V Full & Half-Duplex RS-485 Transceivers; Manufacturer: Texas Instruments; Value: ISO15MDW; PackageReference: SOIC; PartID: 296-27545-5-ND; PartNumber: ISO15MDW
footprint DW16
pins: 1 VCC1 (power), 2 GND1 (power), 3 R, 4 ~{RE}, 5 DE, 6 D, 7 GND1 (power), 8 GND1 (power), 9 GND2 (power), 10 GND2 (power), 11 NC, 12 A, 13 B, 14 NC, 15 GND2 (power), 16 VCC2 (power)

## IC_ISO_ISO7761
designator U?
DGTL ISO 5000VRMS 6CH 16SOIC; Manufacturer: Texas Instruments; Value: ISO7761FQDWQ1; PackageReference: 16SOIC; PartID: 296-53488-ND; PartNumber: ISO7761FQDWQ1
footprint SOIC127P1030X265-16N
pins: 1 VCC1 (power), 2 INA, 3 INB, 4 INC, 5 IND, 6 INE, 7 OUTF, 8 GND1 (power), 9 GND2 (power), 10 INF, 11 OUTE, 12 OUTD, 13 OUTC, 14 OUTB, 15 OUTA, 16 VCC2 (power)

## IC_ISO_ISOW7841FDWER
designator U?
DGTL ISO 5000VRMS 4CH GP 16SOIC; Manufacturer: Texas Instruments; PartNumber: ISOW7841DWER; Value: ISOW7841DWER; PackageReference: 16SOIC; PartID: 296-45475-1-ND
footprint DWE0016A
pins: 1 VCC, 2 GND1, 3 INA, 4 INB, 5 INC, 6 OUTD, 7 NC, 8 GND1, 9 GND2, 10 SEL, 11 IND, 12 OUTC, 13 OUTB, 14 OUTA, 15 GND2, 16 VISO

## IC_ISO_MAX22025FAWA
designator U?
IC TRANSCEIVER HALF 1/1 8SOIC; Manufacturer: Maxim Integrated; PartNumber: MAX22025FAWA+; Value: MAX22025FAWA+; Value3: SN65HVD1780QDRQ1; PackageReference: 8SOIC; PartID: 700-MAX22027FAWA+
footprint D0008A_L
pins: 1 R, 2 D, 3 VCCA, 4 GNDA, 5 GNDB, 6 A, 7 B, 8 VCCB

## IC_LDO_BU33SD5WG-TR
designator U?
IC REG LINEAR 3.3V 500MA 5SSOP; PartNumber: BU33SD5WG-TR; Manufacturer: Rohm Semiconductor; Value: BU33SD5WG-TR; PartID: 0176-0571-3; PackageReference: SOT-753; Value2: *; Value3: *
footprint SOT95P280X125-5N
pins: 1 IN, 2 GND, 3 EN, 5 OUT

## IC_LDO_LD1085D2M-R
designator U?
LDO Voltage Regulators 2.85-30V 3.0A Adj; PartNumber: LD1085D2M-R; Manufacturer: STMicroelectronics; Value: LD1085D2M-R; PartID: 511-LD1085D2M; Value2: *; Value3: *
footprint LD1085D2M-R (D2-PAK, 4-Pads, Body 7.57x8.36mm (max), IPC Low Density)
pins: 1 ADJ/GND, 2 Vout, 3 Vin

## IC_LDO_LM317DCYG3
designator U?
IC REG LIN POS ADJ 1.5A SOT223-4; PartNumber: LM317DCYG3; Manufacturer: Texas Instruments; Value: LM317DCYG3; PackageReference: SOT223-4; PartID: 296-36104-5-ND
footprint SOT230P700X180-4N
pins: 1 IN, 2 OUT, 3 GND, 4 OUT

## IC_LDO_LM2940IMP-5.0/NO
designator U?
IC REG LINEAR 5V 1A SOT223-4; PartNumber: LM2940IMPX-5.0/NOPB; Manufacturer: Texas Instruments; Value: LM2940IMPX-5.0/NOPB; PackageReference: DCY0004A; PartID: 926-LM2940IMP5.0NOPB
footprint DCY0004A_L
pins: 1 IN, 2 GND, 3 OUT, 4 GND

## IC_LDO_LM7805MPX
designator U?
IC REG LIN POS ADJ 1.5A SOT223-4; PartNumber: LM7805MPX/NOPB; Manufacturer: Texas Instruments; Value: LM7805MPX/NOPB; PackageReference: SOT223-4; PartID: 296-44518-1-ND
footprint SOT230P700X180-4N
pins: 1 IN, 2 GND, 3 OUT, 4 GND

## IC_LDO_LP5907
designator U?
IC REG LINEAR 3.3V 250MA SOT23-5; Manufacturer: Texas Instruments; Value: LP5907MFX-3.3/NOPB; PackageReference: SOT23-5; PartID: 296-38557-1-ND; PartNumber: LP5907MFX-3.3/NOPB
footprint SOT95P280X145-5N
pins: 1 IN, 2 GND, 3 EN, 5 OUT

## IC_LDO_MIC29302WU
designator U?
IC REG LINEAR POS ADJ 3A TO263-5; Manufacturer: Microchip Technology; Value: MIC29302WU-TR; PackageReference: TO263-5; PartID: 576-1125-1-ND; PartNumber: MIC29302WU-TR
footprint DPAK6P170_1524X459L254X81N
pins: 1 EN, 2 IN, 3 GND, 4 OUT, 5 ADJ, 6 GND

## IC_LDO_RT9069-33GB
designator U?
200mA 360mV@(10mA) Fixed 3.3V~3.3V Positive 1 36V SOT-23-5 Linear Voltage Regulators (LDO) ROHS; PartNumber: RT9069-33GB; Manufacturer: Richtek Tech; Value: RT9069-33GB; PartID: C147969; PackageReference: SOT-23-5; Value2: *; Value3: *
footprint SOT95P280X145-5N
pins: 1 IN, 2 GND, 4 EN, 5 OUT

## IC_LDO_TLV76733DRVR
designator U?
IC REG LINEAR 3.3V 1A 6WSON; PartNumber: TLV76733DRVR; Manufacturer: Texas Instruments; Value: TLV76733DRVR; PackageReference: DCY0004A; PartID: 296-TLV76733DRVRCT-ND
footprint SON65P200X200X80-7N
pins: 1 OUT, 2 SNS, 3 GND, 4 EN, 5 GND, 6 IN

## IC_LDO_TPS70933
designator U?
IC REG LINEAR 3.3V 150MA SOT23-5; PartNumber: TPS70933DBVT; Manufacturer: Texas Instruments; Value: TPS70933DBVT; PartID: 595-TPS70933DBVT; PackageReference: SOT-23-5; Value2: *; Value3: *
footprint SOT95P280X145-5N
pins: 1 IN, 2 GND, 3 EN, 5 OUT

## IC_LDO_UA78M05QDCYRG4Q1
designator U?
IC REG LINEAR 5V 500MA SOT223-4; PartNumber: UA78M05QDCYRG4Q1; Manufacturer: Texas Instruments; Value: UA78M05QDCYRG4Q1; PackageReference: SOT-223-4; PartID: 296-22950-1-ND
footprint SOT230P700X180-4N
pins: 1 IN, 2 GND, 3 OUT, 4 GND

## IC_LDO_UA78M33QDCYRG4Q1
designator U?
IC REG LIN 3.3V 500MA SOT223-4; Manufacturer: Texas Instruments; Value: UA78M33QDCYRG4Q1; PackageReference: SOT223-4; PartID: 296-22949-1-ND; PartNumber: UA78M33QDCYRG4Q1
footprint DCY4_TEX
pins: 1 IN, 2 GND, 3 OUT, 4 GND

## IC_LDO_UA7805CKTTRG3
designator U?
IC REG LIN 5V 1.5A DDPAK/TO263-3; PartNumber: UA7805CKTTRG3; Manufacturer: Texas Instruments; Value: UA7805CKTTRG3; PackageReference: TO-263-3; PartID: 296-50442-1-ND
footprint TO254P1524X483-4N
pins: 1 IN, 2 GND, 3 OUT, 4 GND

## IC_LDO_ZTP7001
designator U?
70dB@(1kHz) 600mA 65μA 420mV@600mA -40℃~+125℃@(Tj) Adjustable Positive 70uVrms 1 6V Overcurrent Protection，Enable, Thermal Protection SOT-23-5L Linear Voltage Regulators (LDO) ROHS; PartNumber: ZTP7001-00; Manufacturer: ZILLTEK; Value: ZTP7001-00; PartID: C481271; PackageReference: SOT-23-5; Value2: *; Value3: *
footprint SOT95P280X145-5N
pins: 1 IN, 2 GND, 3 EN, 4 FB, 5 OUT

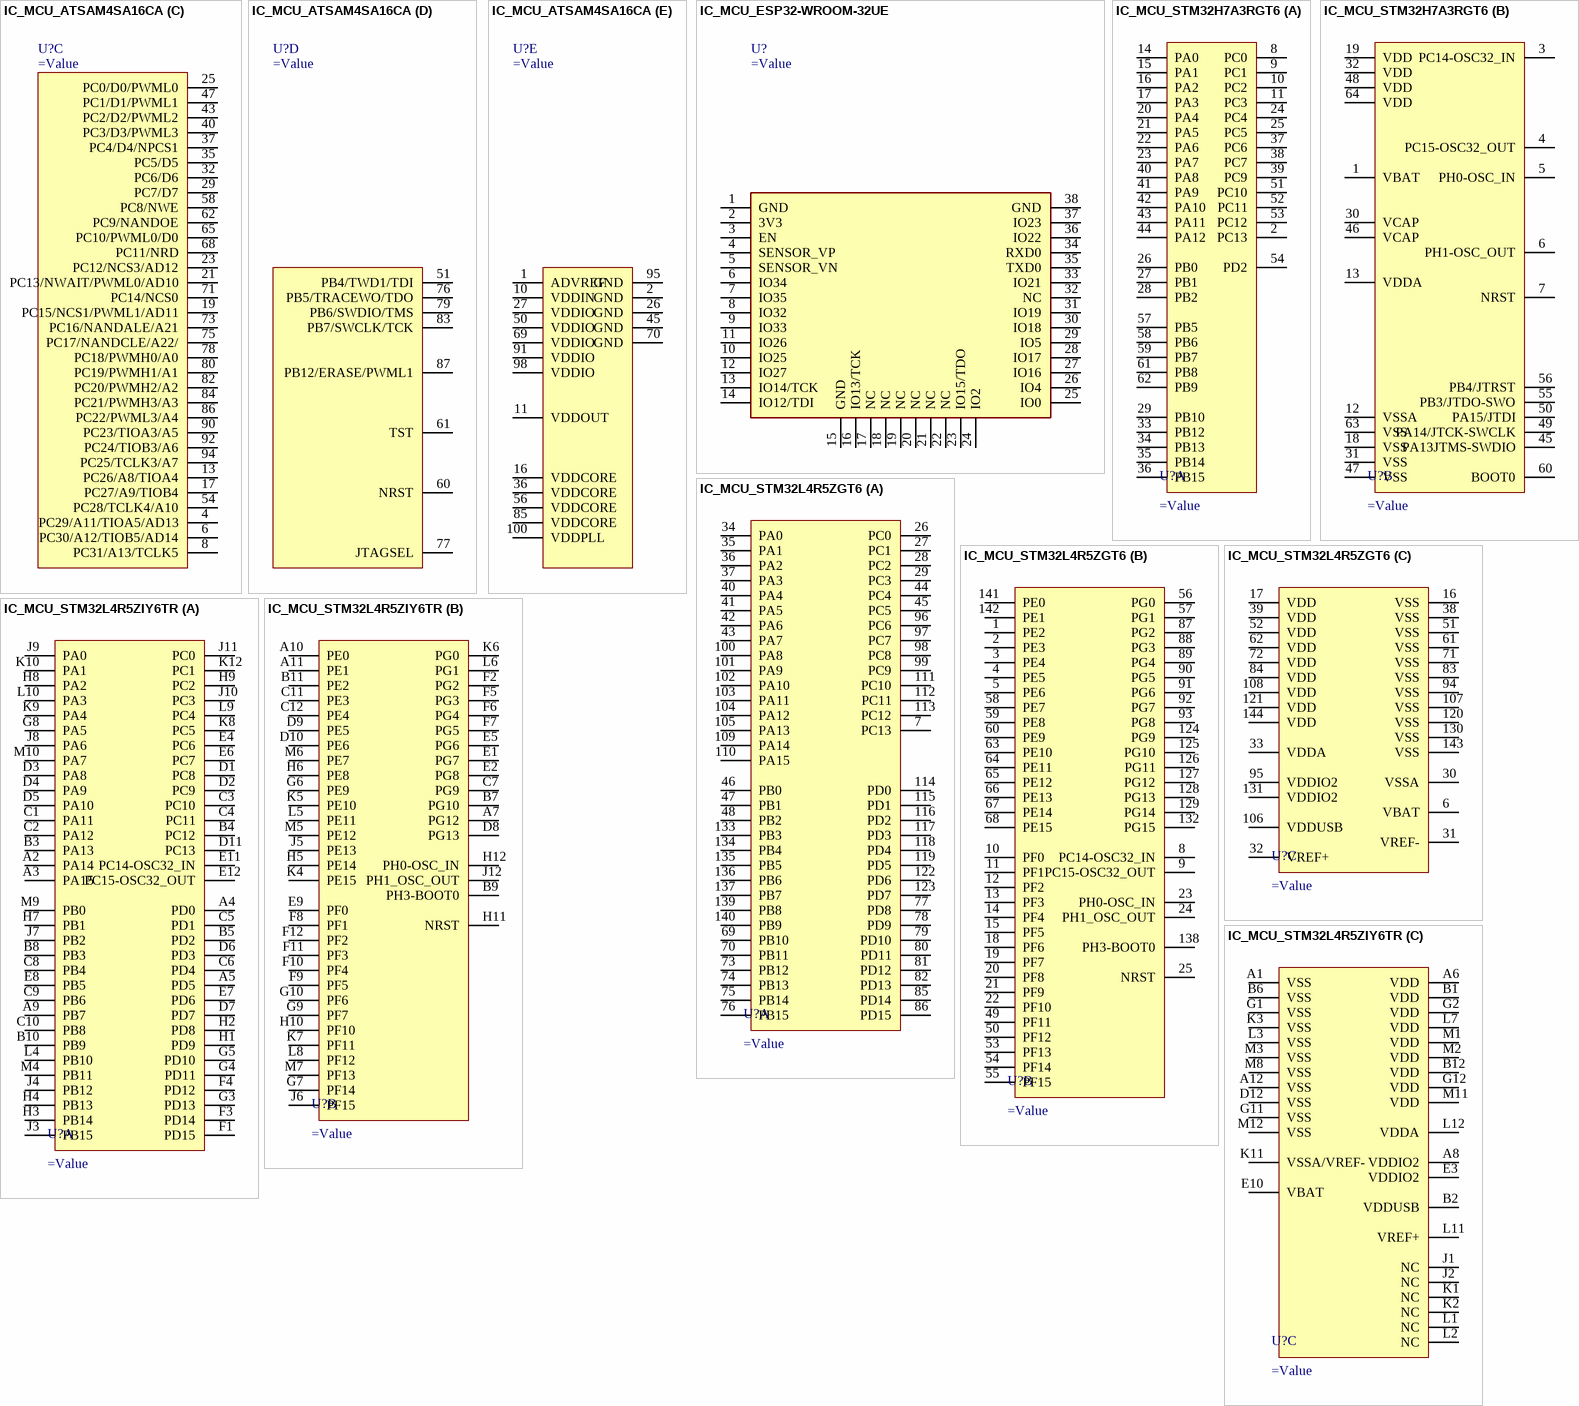
[diagram p4: symbols IC_MCU_ATSAM4SA16CA to IC_MCU_STM32L4R5ZIY6TR]

## IC_MCU_ATSAM4SA16CA
designator U?
IC MCU 32BIT 1MB FLASH 100LQFP; Manufacturer: Microchip Technology; PartNumber: ATSAM4SA16CA-AUR; Value: ATSAM4SA16CA-AUR; PackageReference: 100-LQFP; PartID: ATSAM4SA16CA-AURCT-ND
footprint TQFP100_14X14M00
part A pins: 12 PA17/TD/PCK1/PWMH3/AD0, 14 PA18/RD/PCK2/A14/AD1, 15 PA21/RXD1/PCK1/AD8, 18 PA19/RK/PWML0/A15/AD2/WKUP9, 20 PA22/TXD1/NPCS3/NCS2/AD9, 22 PA23/SCK1/PWMH0/A19/PIODCCLK, 24 PA20/RF/PWML1/A16/AD3/WKUP10, 28 PA16/TK/TIOB1/PWML2/WKUP15/PIODCEN2, 30 PA15/TF/TIOA1/PWML3/WKUP14/WKUP14/PIODCEN1, 31 PA14/SDCK/PWMH3/WKUP8, 33 PA13/MOSI/PWMH2, 34 PA24/RTS1/PWMH1/A20/PIODC0, 38 PA25/CTS1/PWMH2/A23/PIODC1, 39 PA26/DCD1/TIOA2/MCDA2/PIODC2, 41 PA12/MISO/PWMH1, 42 PA11/NPCS0/PWMH0/WKUP7, 44 PA10/UTXD0/NPCS2, 46 PA9/URXD0/NPCS1/PWMFI0/WKUP6, 48 PA8/CTS0/ADTRG/WKUP5/XOUT32, 49 PA7/RTS0/PWMH3/XIN32, 52 PA6/PCK0/TXD0, 53 PA5/WKUP4/NPCS3/RXD0, 55 PA4/WKUP3/TCLK0/TWCK0, 57 PA27/PIODC3/MCDA3/TIOB2/DTR1, 59 PA28/PIODC4/MCCDA/TCLK1/DSR1, 63 PA29/PIODC5/MCCK/TCLK2/RI1, 64 PA30/PIODC6/WKUP11/MCDA0/NPCS2/PWML2, 66 PA3/NPCS3/TWD0, 67 PA2/WKUP2/DATRG/SCK0/PWMH2, 72 PA1/WKUP1/A18/TIOB0/PWMH1, 74 PA0/WKUP0/A17/TIOA0/PWMH0, 81 PA31/PIODC7/MCDA1/PCK2/NPCS1
part B pins: 3 PB0/PWMH0/AD4/RTCOUT0, 5 PB1/PWMH1/AD5/RTCOUT1, 7 PB2/URXD1/NPCS2/AD6/WKUP12, 9 PB3/UTXD1/PCK2/AD7, 88 DDM/PB10, 89 DDP/PB11, 93 PB13/DAC0/PCK0/PWML2, 96 PB8/XOUT, 97 PB9/PGMCK/XIN, 99 PB14/DAC1/PWMH3/NPCS1
part C pins: 4 PC29/A11/TIOA5/AD13, 6 PC30/A12/TIOB5/AD14, 8 PC31/A13/TCLK5, 13 PC26/A8/TIOA4, 17 PC27/A9/TIOB4, 19 PC15/NCS1/PWML1/AD11, 21 PC13/NWAIT/PWML0/AD10, 23 PC12/NCS3/AD12, 25 PC0/D0/PWML0, 29 PC7/D7, 32 PC6/D6, 35 PC5/D5, 37 PC4/D4/NPCS1, 40 PC3/D3/PWML3, 43 PC2/D2/PWML2, 47 PC1/D1/PWML1, 54 PC28/TCLK4/A10, 58 PC8/NWE, 62 PC9/NANDOE, 65 PC10/PWML0/D0, 68 PC11/NRD, 71 PC14/NCS0, 73 PC16/NANDALE/A21, 75 PC17/NANDCLE/A22/, 78 PC18/PWMH0/A0, 80 PC19/PWMH1/A1, 82 PC20/PWMH2/A2, 84 PC21/PWMH3/A3, 86 PC22/PWML3/A4, 90 PC23/TIOA3/A5, 92 PC24/TIOB3/A6, 94 PC25/TCLK3/A7
part D pins: 51 PB4/TWD1/TDI, 60 NRST, 61 TST, 76 PB5/TRACEWO/TDO, 77 JTAGSEL, 79 PB6/SWDIO/TMS, 83 PB7/SWCLK/TCK, 87 PB12/ERASE/PWML1
part E pins: 1 ADVREF, 2 GND, 10 VDDIN, 11 VDDOUT, 16 VDDCORE, 26 GND, 27 VDDIO, 36 VDDCORE, 45 GND, 50 VDDIO, 56 VDDCORE, 69 VDDIO, 70 GND, 85 VDDCORE, 91 VDDIO, 95 GND, 98 VDDIO, 100 VDDPLL

## IC_MCU_ESP32-WROOM-32UE
designator U?
RX TXRX MODULE WIFI U.FL SMD; Manufacturer: Microchip Technology; PartNumber: ESP32-WROOM-32UE (8MB); Value: ESP32-WROOM-32UE (8MB); PackageReference: 38-SMD; PartID: 1965-ESP32-WROOM-32UE(8MB)CT-ND
footprint MODULE_ESP32-WROOM-32UE ((M113EH6400UH3Q0))
pins: 1 GND, 2 3V3, 3 EN, 4 SENSOR_VP, 5 SENSOR_VN, 6 IO34, 7 IO35, 8 IO32, 9 IO33, 10 IO25, 11 IO26, 12 IO27, 13 IO14/TCK, 14 IO12/TDI, 15 GND, 16 IO13/TCK, 17 NC, 18 NC, 19 NC, 20 NC, 21 NC, 22 NC, 23 IO15/TDO, 24 IO2, 25 IO0, 26 IO4, 27 IO16, 28 IO17, 29 IO5, 30 IO18, 31 IO19, 32 NC, 33 IO21, 34 RXD0, 35 TXD0, 36 IO22, 37 IO23, 38 GND

## IC_MCU_STM32H7A3RGT6
designator U?
IC MCU 32BIT 1376KB FLSH 64LQFP; PartNumber: STM32H7A3RGT6; Manufacturer: STMicroelectronics; Value: STM32H7A3RGT6; PartID: 511-STM32H7A3RGT6; PackageReference: LQFP-64; Value2: *; Value3: *
footprint LQFP64
part A pins: 2 PC13, 8 PC0, 9 PC1, 10 PC2, 11 PC3, 14 PA0, 15 PA1, 16 PA2, 17 PA3, 20 PA4, 21 PA5, 22 PA6, 23 PA7, 24 PC4, 25 PC5, 26 PB0, 27 PB1, 28 PB2, 29 PB10, 33 PB12, 34 PB13, 35 PB14, 36 PB15, 37 PC6, 38 PC7, 39 PC9, 40 PA8, 41 PA9, 42 PA10, 43 PA11, 44 PA12, 51 PC10, 52 PC11, 53 PC12, 54 PD2, 57 PB5, 58 PB6, 59 PB7, 61 PB8, 62 PB9
part B pins: 1 VBAT, 3 PC14-OSC32_IN, 4 PC15-OSC32_OUT, 5 PH0-OSC_IN, 6 PH1-OSC_OUT, 7 NRST, 12 VSSA, 13 VDDA, 18 VSS, 19 VDD, 30 VCAP, 31 VSS, 32 VDD, 45 PA13JTMS-SWDIO, 46 VCAP, 47 VSS, 48 VDD, 49 PA14/JTCK-SWCLK, 50 PA15/JTDI, 55 PB3/JTDO-SWO, 56 PB4/JTRST, 60 BOOT0, 63 VSS, 64 VDD

## IC_MCU_STM32L4R5ZGT6
designator U?
IC MCU 32BIT 1MB FLASH 144LQFP; Manufacturer: STMicroelectronics; PartNumber: STM32L4R5ZGT6; Value: STM32L4R5ZGT6; PackageReference: 144-LQFP; PartID: 497-19204-ND
footprint LQFP144-20X20MM
part A pins: 7 PC13, 26 PC0, 27 PC1, 28 PC2, 29 PC3, 34 PA0, 35 PA1, 36 PA2, 37 PA3, 40 PA4, 41 PA5, 42 PA6, 43 PA7, 44 PC4, 45 PC5, 46 PB0, 47 PB1, 48 PB2, 69 PB10, 70 PB11, 73 PB12, 74 PB13, 75 PB14, 76 PB15, 77 PD8, 78 PD9, 79 PD10, 80 PD11, 81 PD12, 82 PD13, 85 PD14, 86 PD15, 96 PC6, 97 PC7, 98 PC8, 99 PC9, 100 PA8, 101 PA9, 102 PA10, 103 PA11, 104 PA12, 105 PA13, 109 PA14, 110 PA15, 111 PC10, 112 PC11, 113 PC12, 114 PD0, 115 PD1, 116 PD2, 117 PD3, 118 PD4, 119 PD5, 122 PD6, 123 PD7, 133 PB3, 134 PB4, 135 PB5, 136 PB6, 137 PB7, 139 PB8, 140 PB9
part B pins: 1 PE2, 2 PE3, 3 PE4, 4 PE5, 5 PE6, 8 PC14-OSC32_IN, 9 PC15-OSC32_OUT, 10 PF0, 11 PF1, 12 PF2, 13 PF3, 14 PF4, 15 PF5, 18 PF6, 19 PF7, 20 PF8, 21 PF9, 22 PF10, 23 PH0-OSC_IN, 24 PH1_OSC_OUT, 25 NRST, 49 PF11, 50 PF12, 53 PF13, 54 PF14, 55 PF15, 56 PG0, 57 PG1, 58 PE7, 59 PE8, 60 PE9, 63 PE10, 64 PE11, 65 PE12, 66 PE13, 67 PE14, 68 PE15, 87 PG2, 88 PG3, 89 PG4, 90 PG5, 91 PG6, 92 PG7, 93 PG8, 124 PG9, 125 PG10, 126 PG11, 127 PG12, 128 PG13, 129 PG14, 132 PG15, 138 PH3-BOOT0, 141 PE0, 142 PE1
part C pins: 6 VBAT, 16 VSS, 17 VDD, 30 VSSA, 31 VREF-, 32 VREF+, 33 VDDA, 38 VSS, 39 VDD, 51 VSS, 52 VDD, 61 VSS, 62 VDD, 71 VSS, 72 VDD, 83 VSS, 84 VDD, 94 VSS, 95 VDDIO2, 106 VDDUSB, 107 VSS, 108 VDD, 120 VSS, 121 VDD, 130 VSS, 131 VDDIO2, 143 VSS, 144 VDD

## IC_MCU_STM32L4R5ZIY6TR
designator U?
IC MCU 32BIT 2MB FLASH 144WLCSP; Manufacturer: STMicroelectronics; PartNumber: STM32L4R5ZIY6TR; Value: STM32L4R5ZIY6TR; PackageReference: 144-WLCSP; PartID: 497-17673-1-ND
footprint BGA144C40P12X12_524X524X59 (BGA, 144-Leads, Body 5.24x5.24mmx0.59mm, Pitch 0.40mm)
part A pins: A2 PA14, A3 PA15, A4 PD0, A5 PD5, A9 PB7, B3 PA13, B4 PC12, B5 PD2, B8 PB3, B10 PB9, C1 PA11, C2 PA12, C3 PC10, C4 PC11, C5 PD1, C6 PD4, C8 PB4, C9 PB6, C10 PB8, D1 PC8, D2 PC9, D3 PA8, D4 PA9, D5 PA10, D6 PD3, D7 PD7, D11 PC13, E4 PC6, E6 PC7, E7 PD6, E8 PB5, E11 PC14-OSC32_IN, E12 PC15-OSC32_OUT, F1 PD15, F3 PD14, F4 PD12, G3 PD13, G4 PD11, G5 PD10, G8 PA5, H1 PD9, H2 PD8, H3 PB14, H4 PB13, H7 PB1, H8 PA2, H9 PC2, J3 PB15, J4 PB12, J7 PB2, J8 PA6, J9 PA0, J10 PC3, J11 PC0, K8 PC5, K9 PA4, K10 PA1, K12 PC1, L4 PB10, L9 PC4, L10 PA3, M4 PB11, M9 PB0, M10 PA7
part B pins: A7 PG12, A10 PE0, A11 PE1, B7 PG10, B9 PH3-BOOT0, B11 PE2, C7 PG9, C11 PE3, C12 PE4, D8 PG13, D9 PE5, D10 PE6, E1 PG7, E2 PG8, E5 PG6, E9 PF0, F2 PG2, F5 PG3, F6 PG4, F7 PG5, F8 PF1, F9 PF5, F10 PF4, F11 PF3, F12 PF2, G6 PE9, G7 PF14, G9 PF7, G10 PF6, H5 PE14, H6 PE8, H10 PF10, H11 NRST, H12 PH0-OSC_IN, J5 PE13, J6 PF15, J12 PH1_OSC_OUT, K4 PE15, K5 PE10, K6 PG0, K7 PF11, L5 PE11, L6 PG1, L8 PF12, M5 PE12, M6 PE7, M7 PF13
part C pins: A1 VSS (power), A6 VDD (power), A8 VDDIO2 (power), A12 VSS (power), B1 VDD (power), B2 VDDUSB (power), B6 VSS (power), B12 VDD (power), D12 VSS (power), E3 VDDIO2 (power), E10 VBAT (power), G1 VSS (power), G2 VDD (power), G11 VSS (power), G12 VDD (power), J1 NC, J2 NC, K1 NC, K2 NC, K3 VSS (power), K11 VSSA/VREF- (power), L1 NC, L2 NC, L3 VSS (power), L7 VDD (power), L11 VREF+ (power), L12 VDDA (power), M1 VDD (power), M2 VDD (power), M3 VSS (power), M8 VSS (power), M11 VDD (power), M12 VSS (power)

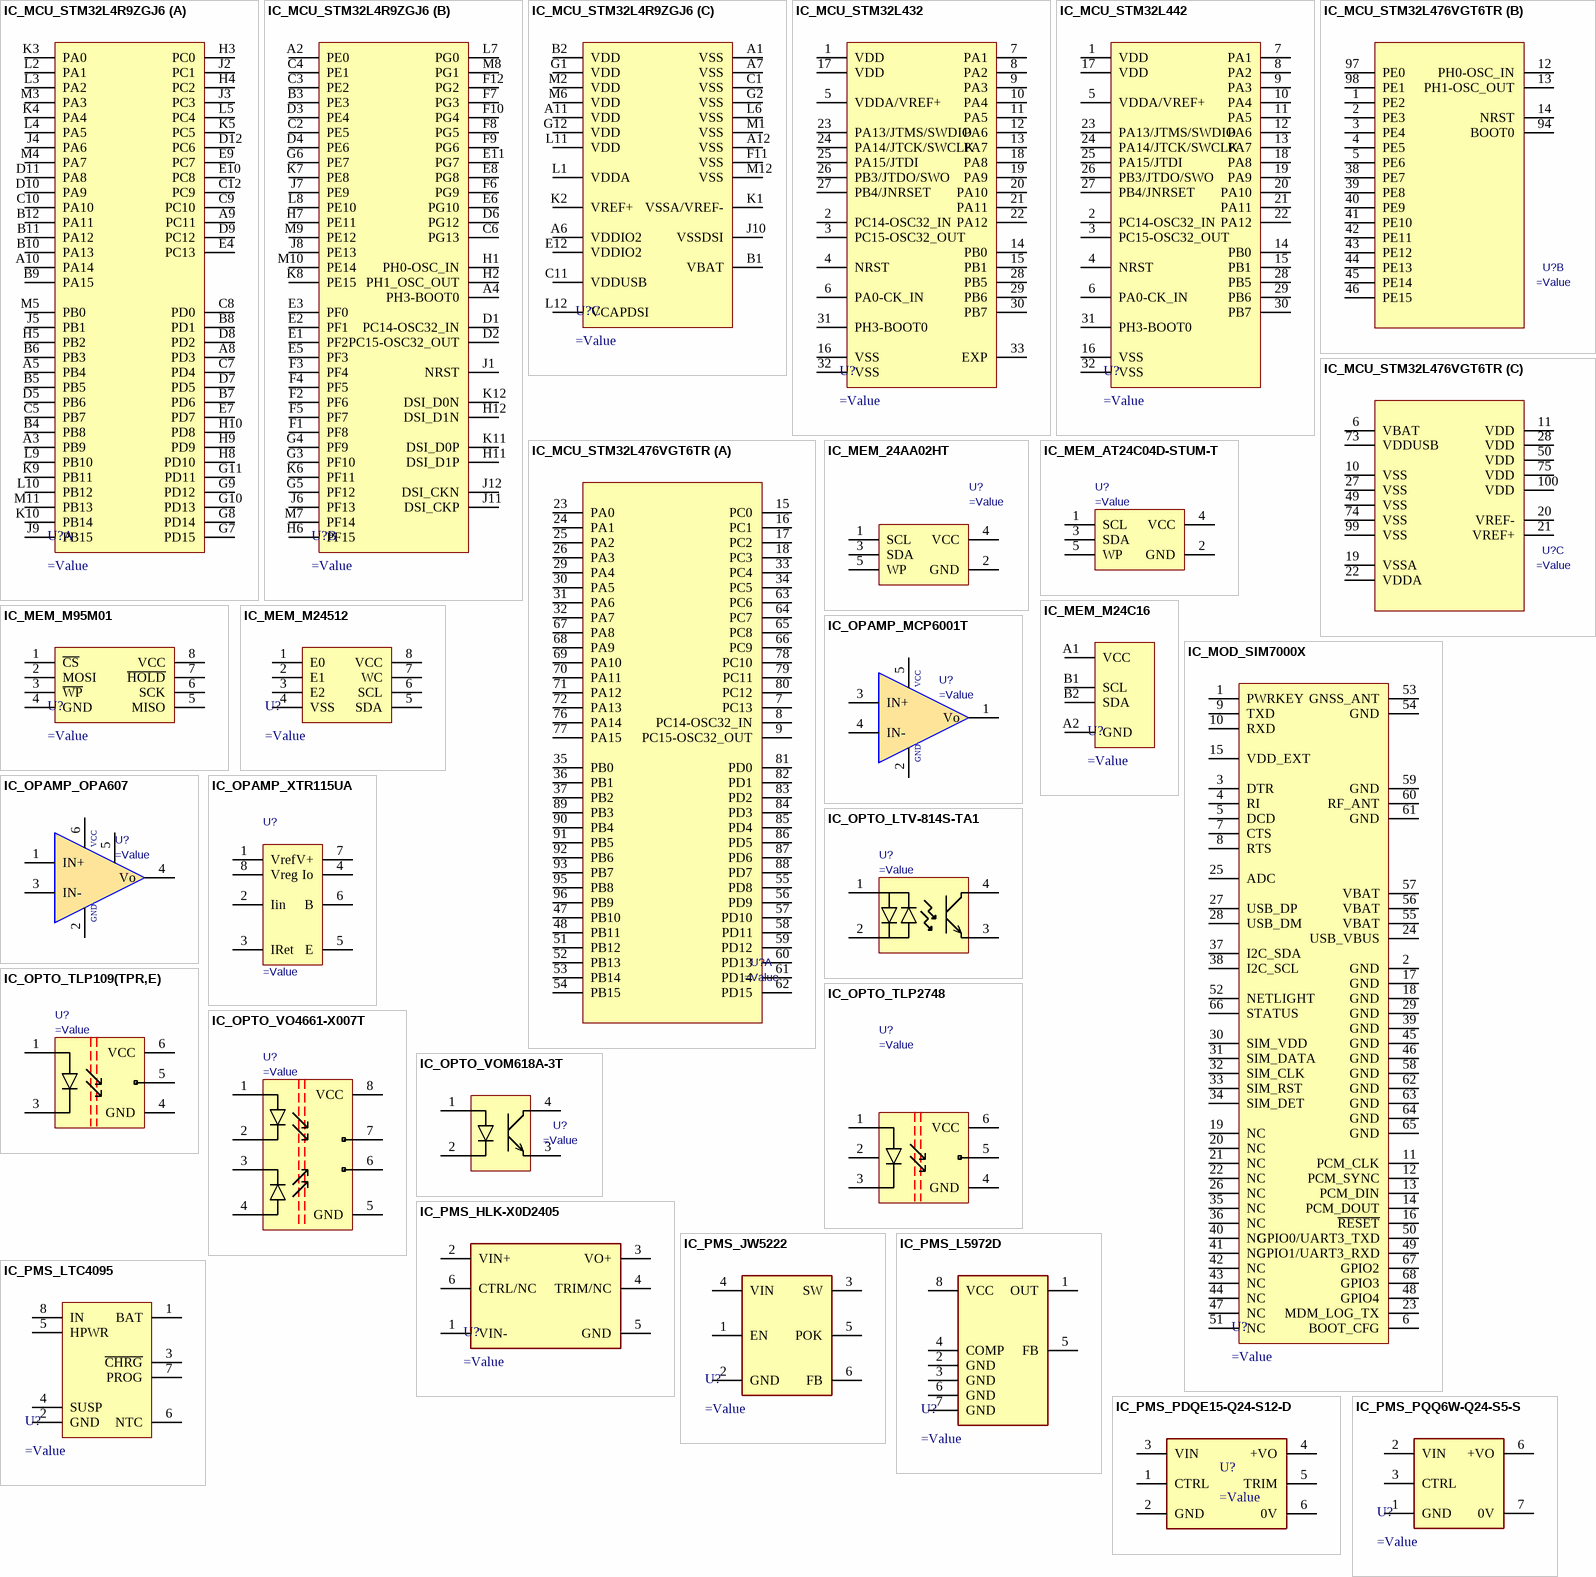
[diagram p5: symbols IC_MCU_STM32L4R9ZGJ6 to IC_PMS_PQQ6W-Q24-S5-S]

## IC_MCU_STM32L4R9ZGJ6
designator U?
IC MCU 32BIT 1MB FLASH 144UFBGA; Manufacturer: STMicroelectronics; Value: STM32L4R9ZGJ6; PackageReference: 144-UFBGA; PartID: 497-19206-ND; PartNumber: STM32L4R9ZGJ6
footprint UFBGA144-10X10MM_STM32L4R9ZGJ6(Primary)
part A pins: A3 PB9, A5 PB4, A8 PD3, A9 PC11, A10 PA14, B4 PB8, B5 PB5, B6 PB3, B7 PD6, B8 PD1, B9 PA15, B10 PA13, B11 PA12, B12 PA11, C5 PB7, C7 PD4, C8 PD0, C9 PC10, C10 PA10, C12 PC9, D5 PB6, D7 PD5, D8 PD2, D9 PC12, D10 PA9, D11 PA8, D12 PC6, E4 PC13, E7 PD7, E9 PC7, E10 PC8, G7 PD15, G8 PD14, G9 PD12, G10 PD13, G11 PD11, H3 PC0, H4 PC2, H5 PB2, H8 PD10, H9 PD9, H10 PD8, J2 PC1, J3 PC3, J4 PA6, J5 PB1, J9 PB15, K3 PA0, K4 PA4, K5 PC5, K9 PB11, K10 PB14, L2 PA1, L3 PA2, L4 PA5, L5 PC4, L9 PB10, L10 PB12, M3 PA3, M4 PA7, M5 PB0, M11 PB13
part B pins: A2 PE0, A4 PH3-BOOT0, B3 PE3, C2 PE5, C3 PE2, C4 PE1, C6 PG13, D1 PC14-OSC32_IN, D2 PC15-OSC32_OUT, D3 PE4, D4 PE6, D6 PG12, E1 PF2, E2 PF1, E3 PF0, E5 PF3, E6 PG10, E8 PG8, E11 PG7, F1 PF8, F2 PF6, F3 PF4, F4 PF5, F5 PF7, F6 PG9, F7 PG3, F8 PG5, F9 PG6, F10 PG4, F12 PG2, G3 PF10, G4 PF9, G5 PF12, G6 PE7, H1 PH0-OSC_IN, H2 PH1_OSC_OUT, H6 PF15, H7 PE11, H11 DSI_D1P, H12 DSI_D1N, J1 NRST, J6 PF13, J7 PE9, J8 PE13, J11 DSI_CKP, J12 DSI_CKN, K6 PF11, K7 PE8, K8 PE15, K11 DSI_D0P, K12 DSI_D0N, L7 PG0, L8 PE10, M7 PF14, M8 PG1, M9 PE12, M10 PE14
part C pins: A1 VSS, A6 VDDIO2, A7 VSS, A11 VDD, A12 VSS, B1 VBAT, B2 VDD, C1 VSS, C11 VDDUSB, E12 VDDIO2, F11 VSS, G1 VDD, G2 VSS, G12 VDD, J10 VSSDSI, K1 VSSA/VREF-, K2 VREF+, L1 VDDA, L6 VSS, L11 VDD, L12 VCAPDSI, M1 VSS, M2 VDD, M6 VDD, M12 VSS

## IC_MCU_STM32L432
designator U?
IC MCU 32BIT 256KB FLSH 32UFQFPN; PartNumber: STM32L432KCU6; Manufacturer: STMicroelectronics; Value: STM32L432KCU6; PartID: 497-16578-ND; PackageReference: *; Value2: *; Value3: *
footprint QFN50P500X500X60-33N
pins: 1 VDD, 2 PC14-OSC32_IN, 3 PC15-OSC32_OUT, 4 NRST, 5 VDDA/VREF+, 6 PA0-CK_IN, 7 PA1, 8 PA2, 9 PA3, 10 PA4, 11 PA5, 12 PA6, 13 PA7, 14 PB0, 15 PB1, 16 VSS, 17 VDD, 18 PA8, 19 PA9, 20 PA10, 21 PA11, 22 PA12, 23 PA13/JTMS/SWDIO, 24 PA14/JTCK/SWCLK, 25 PA15/JTDI, 26 PB3/JTDO/SWO, 27 PB4/JNRSET, 28 PB5, 29 PB6, 30 PB7, 31 PH3-BOOT0, 32 VSS, 33 EXP

## IC_MCU_STM32L442
designator U?
IC MCU 32BIT 256KB FLSH 32UFQFPN; PartNumber: STM32L442KCU6; Manufacturer: STMicroelectronics; Value: STM32L442KCU6; PartID: 497-16585-ND; PackageReference: *; Value2: *; Value3: *
footprint UFQFPN-32P
pins: 1 VDD, 2 PC14-OSC32_IN, 3 PC15-OSC32_OUT, 4 NRST, 5 VDDA/VREF+, 6 PA0-CK_IN, 7 PA1, 8 PA2, 9 PA3, 10 PA4, 11 PA5, 12 PA6, 13 PA7, 14 PB0, 15 PB1, 16 VSS, 17 VDD, 18 PA8, 19 PA9, 20 PA10, 21 PA11, 22 PA12, 23 PA13/JTMS/SWDIO, 24 PA14/JTCK/SWCLK, 25 PA15/JTDI, 26 PB3/JTDO/SWO, 27 PB4/JNRSET, 28 PB5, 29 PB6, 30 PB7, 31 PH3-BOOT0, 32 VSS

## IC_MCU_STM32L476VGT6TR
designator U?
Manufacturer: STMicroelectronics; Value: STM32L476VGT6TR; PackageReference: 100LQFP; PartID: 497-19383-1-ND; PartNumber: STM32L476VGT6TR
footprint LQFP100-14X14MM
part A pins: 7 PC13, 8 PC14-OSC32_IN, 9 PC15-OSC32_OUT, 15 PC0, 16 PC1, 17 PC2, 18 PC3, 23 PA0, 24 PA1, 25 PA2, 26 PA3, 29 PA4, 30 PA5, 31 PA6, 32 PA7, 33 PC4, 34 PC5, 35 PB0, 36 PB1, 37 PB2, 47 PB10, 48 PB11, 51 PB12, 52 PB13, 53 PB14, 54 PB15, 55 PD8, 56 PD9, 57 PD10, 58 PD11, 59 PD12, 60 PD13, 61 PD14, 62 PD15, 63 PC6, 64 PC7, 65 PC8, 66 PC9, 67 PA8, 68 PA9, 69 PA10, 70 PA11, 71 PA12, 72 PA13, 76 PA14, 77 PA15, 78 PC10, 79 PC11, 80 PC12, 81 PD0, 82 PD1, 83 PD2, 84 PD3, 85 PD4, 86 PD5, 87 PD6, 88 PD7, 89 PB3, 90 PB4, 91 PB5, 92 PB6, 93 PB7, 95 PB8, 96 PB9
part B pins: 1 PE2, 2 PE3, 3 PE4, 4 PE5, 5 PE6, 12 PH0-OSC_IN, 13 PH1-OSC_OUT, 14 NRST, 38 PE7, 39 PE8, 40 PE9, 41 PE10, 42 PE11, 43 PE12, 44 PE13, 45 PE14, 46 PE15, 94 BOOT0, 97 PE0, 98 PE1
part C pins: 6 VBAT, 10 VSS, 11 VDD, 19 VSSA, 20 VREF-, 21 VREF+, 22 VDDA, 27 VSS, 28 VDD, 49 VSS, 50 VDD, 73 VDDUSB, 74 VSS, 75 VDD, 99 VSS, 100 VDD

## IC_MEM_24AA02HT
designator U?
IC EEPROM 2KBIT I2C SC70-5; Manufacturer: Microchip Technology; Value: 24AA02HT-I/LT; PackageReference: SC-70-5; PartID: 24AA02HT-I/LTCT-ND; PartNumber: 24AA02HT-I/LT
footprint SOT65P210X110-5N (SOT23, 5-Leads, Body 2.00x2.10mm, Pitch 0.65mm, IPC Medium Density)
pins: 1 SCL, 2 GND, 3 SDA, 4 VCC, 5 WP

## IC_MEM_AT24C04D-STUM-T
designator U?
IC EEPROM 4KBIT I2C 1MHZ SOT23-5; Manufacturer: Microchip Technology; Value: AT24C04D-STUM-T; PackageReference: SOT23-5; PartID: AT24C04D-STUM-TCT-ND; PartNumber: AT24C04D-STUM-T
footprint SOT95P280X100-5N
pins: 1 SCL, 2 GND, 3 SDA, 4 VCC, 5 WP

## IC_MEM_M24C16
designator U?
IC EEPROM 16KBIT I2C 1MHZ 4WLCSP; PartNumber: M24C16-DFCU6TP/K; Manufacturer: STMicroelectronics; Value: M24C16-DFCU6TP/K; PartID: 497-15360-1-ND; PackageReference: WLCSP-4; Value2: *; Value3: *
footprint BGA4C50P2X2 (BGA4C50P2X2_100X100X50)
pins: A1 VCC, A2 GND, B1 SCL, B2 SDA

## IC_MEM_M95M01
designator U?
IC EEPROM 1MBIT SPI 16MHZ 8TSSOP; PartNumber: M95M01-DWMN3TP/K; Manufacturer: STMicroelectronics; Value: M95M01-DWMN3TP/K; PartID: 497-14465-1-ND; PackageReference: SOIC16; Value3: *
footprint SOIC127P600X175-8M (SOIC, 8-Leads, Body 4.90x3.90mm, Pitch 1.27mm, IPC Low Density)
pins: 1 ~{CS}, 2 MOSI, 3 ~{WP}, 4 GND, 5 MISO, 6 SCK, 7 ~{HOLD}, 8 VCC

## IC_MEM_M24512
designator U?
IC EEPROM 512KBIT I2C 8TSSOP; PartNumber: M24512-DRDW3TP/K; Manufacturer: STMicroelectronics; Value: M24512-DRDW3TP/K; PartID: 497-14422-1-ND; PackageReference: *; Value2: *; Value3: *
footprint TSSOP_W3TP/K_STM
pins: 1 E0, 2 E1, 3 E2, 4 VSS, 5 SDA, 6 SCL, 7 WC, 8 VCC

## IC_MOD_SIM7000X
designator U?
DGTL ISO 5000VRMS 6CH 16SOIC; Manufacturer: SIMCom Wireless Solutions Limited; Value: SIM7000G; PackageReference: QFN-68; PartNumber: SIM7000G
footprint SIM7000A S2-1000
pins: 1 PWRKEY, 2 GND, 3 DTR, 4 RI, 5 DCD, 6 BOOT_CFG, 7 CTS, 8 RTS, 9 TXD, 10 RXD, 11 PCM_CLK, 12 PCM_SYNC, 13 PCM_DIN, 14 PCM_DOUT, 15 VDD_EXT, 16 ~{RESET}, 17 GND, 18 GND, 19 NC, 20 NC, 21 NC, 22 NC, 23 MDM_LOG_TX, 24 USB_VBUS, 25 ADC, 26 NC, 27 USB_DP, 28 USB_DM, 29 GND, 30 SIM_VDD, 31 SIM_DATA, 32 SIM_CLK, 33 SIM_RST, 34 SIM_DET, 35 NC, 36 NC, 37 I2C_SDA, 38 I2C_SCL, 39 GND, 40 NC, 41 NC, 42 NC, 43 NC, 44 NC, 45 GND, 46 GND, 47 NC, 48 GPIO4, 49 GPIO1/UART3_RXD, 50 GPIO0/UART3_TXD, 51 NC, 52 NETLIGHT, 53 GNSS_ANT, 54 GND, 55 VBAT, 56 VBAT, 57 VBAT, 58 GND, 59 GND, 60 RF_ANT, 61 GND, 62 GND, 63 GND, 64 GND, 65 GND, 66 STATUS, 67 GPIO2, 68 GPIO3

## IC_OPAMP_MCP6001T
designator U?
IC OPAMP GP 1 CIRCUIT SC70-5; Manufacturer: Texas Instruments; Value: MCP6001T-E/LT; PackageReference: SC-70-5; PartID: MCP6001T-E/LTCT-ND; PartNumber: MCP6001T-E/LT
footprint SOT65P210X110-5N (SOT23, 5-Leads, Body 2.00x2.10mm, Pitch 0.65mm, IPC Medium Density)
pins: 1 Vo, 2 GND, 3 IN+, 4 IN-, 5 VDD
text: VCC

## IC_OPAMP_OPA607
designator U?
LOW POWER, PRECISION, 50 MHZ DEC; Manufacturer: Texas Instruments; Value: OPA607IDCKR; PackageReference: SC-70-6; PartID: 296-OPA607IDCKRCT-ND; PartNumber: OPA607IDCKR
footprint SOT65P210X110-6N
pins: 1 IN+, 2 GND, 3 IN-, 4 Vo, 5 Vo, 6 VDD
text: VCC

## IC_OPAMP_XTR115UA
designator U?
IC CURRENT TRANSMITTER 8SOIC; Manufacturer: Texas Instruments; PartNumber: XTR115UA/2K5; Value: XTR115UA/2K5; PackageReference: SOIC-8; PartID: 296-39548-1-ND
footprint D0008A_L
pins: 1 Vref, 2 Iin, 3 IRet, 4 Io, 5 E, 6 B, 7 V+, 8 Vreg

## IC_OPTO_LTV-814S-TA1
designator U?
OPTOISOLATR 5KV TRANSISTOR 4-SMD; Manufacturer: Lite-On Inc.; Value: LTV-814S-TA1; PackageReference: 4-SOP; PartID: 160-1891-1-ND; PartNumber: LTV-814S-TA1
footprint LTV-814S_LTO
pins: 1 A, 2 C_2, 3 E, 4 C

## IC_OPTO_TLP109(TPR,E)
designator U?
OPTOISO 5KV PUSH PULL SO6L; Manufacturer: Toshiba Semiconductor and Storage; Value: TLP109(TPR,E); Value2: FODM453R2V; PackageReference: SO-6; PartID: TLP109(TPRE)CT-ND; PartNumber: TLP109(TPR,E)
footprint 5PIN SO6_TOS
pins: 1 A, 3 A, 4 GND, 5 O1, 6 VCC

## IC_OPTO_TLP2748
designator U?
OPTOISO 5KV PUSH PULL SO6L; Manufacturer: Toshiba Semiconductor and Storage; Value: TLP2748(TP,E; PackageReference: SO-6; PartID: TLP2748(TPECT-ND; PartNumber: TLP2748(TP,E
footprint SOIC127P1000X210-6M (SOIC, 6-Leads, Body 3.84x7.50mm, Pitch 1.27mm, IPC Low Density)
pins: 1 A, 2 C, 3 A, 4 GND, 5 O1, 6 VCC

## IC_OPTO_VO4661-X007T
designator U?
OPTOISO 5.3KV 2CH OPEN DRN 8SMD; Manufacturer: Vishay Semiconductors; Value: VO4661-X007T; PackageReference: SMD-8; PartID: 782-VO4661-X007T; PartNumber: VO4661-X007T
footprint SOP254P1010X425-8M (SOP, 8-Leads, Body 9.96x6.70mm, Pitch 2.54mm, IPC Low Density)
pins: 1 A, 2 C, 3 A, 4 C, 5 GND, 6 O2, 7 O1, 8 VCC

## IC_OPTO_VOM618A-3T
designator U?
OPTOISOLATOR 3.75KV TRANS 4-SOP; Manufacturer: Vishay; Value: VOM618A-3T; PackageReference: 4-SOP; PartID: VOM618A-3CT-ND; PartNumber: VOM618A-3T
footprint SOIC_M618A-3T_VI
pins: 1 A, 2 C_2, 3 E, 4 C

## IC_PMS_HLK-X0D2405
designator U?
20W DC/DC IN 9-36V OUT 5V; Manufacturer: HI-LINK; Value: HLK-10D2405; PackageReference: *; PartID: C2761163; PartNumber: HLK-10D2405
footprint CONV_HLK-20D2405
pins: 1 VIN-, 2 VIN+, 3 VO+, 4 TRIM/NC, 5 GND, 6 CTRL/NC

## IC_PMS_JW5222
designator U?
DC DC CONVERTER 5V 5W; PartNumber: JW5222; Manufacturer: JoulWatt Tech; Value: JW5222; PartID: C371424; PackageReference: SOT-23-5; Value2: *; Value3: *
footprint SOT95P270X115-6M (SOT23, 6-Leads, Body 2.92x2.70mm, Pitch 0.95mm, IPC Low Density)
pins: 1 EN, 2 GND, 3 SW, 4 VIN, 5 POK, 6 FB

## IC_PMS_L5972D
designator U?
IC REG BUCK ADJUSTABLE 2A 8SO; PartNumber: L5972D; Manufacturer: L5972D013TR; Value: L5972D; PartID: 511-L5972D; PackageReference: 8-SOIC; Value2: *; Value3: *
footprint SO-8_STM
pins: 1 OUT, 2 GND, 3 GND, 4 COMP, 5 FB, 6 GND, 7 GND, 8 VCC

## IC_PMS_LTC4095
designator U?
IC BATT CHG LI-ION 1CELL 8DFN; PartNumber: LTC4095EDC#TRMPBF; Manufacturer: Analog Devices Inc.; Value: LTC4095EDC#TRMPBF; PartID: LTC4095EDC#TRMPBFCT-ND; PackageReference: DFN-8; Value2: *; Value3: *
footprint SON45P200X200X80-9N
pins: 1 BAT, 2 GND, 3 ~{CHRG}, 4 SUSP, 5 HPWR, 6 NTC, 7 PROG, 8 IN

## IC_PMS_PDQE15-Q24-S12-D
designator U?
15 W, 4:1 Input Range, Single/Dual Regulated Output, DIP, 1500 Vdc Isolation, Dc-Dc Converter; Manufacturer: CUI Inc.; Value: PDQE15-Q24-S12-D; PackageReference: DIP-6; PartID: 102-6350-ND; PartNumber: PDQE15-Q24-S12-D
footprint CONV_PDQE15-Q24-S12-D
pins: 1 CTRL, 2 GND (power), 3 VIN, 4 +VO, 5 TRIM, 6 0V

## IC_PMS_PQQ6W-Q24-S5-S
designator U?
DC-DC ISOLATED, 6 W, 9~36 VDC IN; Manufacturer: CUI Inc.; Value: PQQ6W-Q24-S5-S; PackageReference: DIP-6; PartID: 102-PQQ6W-Q24-S5-S-ND; PartNumber: PQQ6W-Q24-S5-S
footprint CONV_PQQ6W-Q24-S5-S
pins: 1 GND, 2 VIN, 3 CTRL, 6 +VO, 7 0V

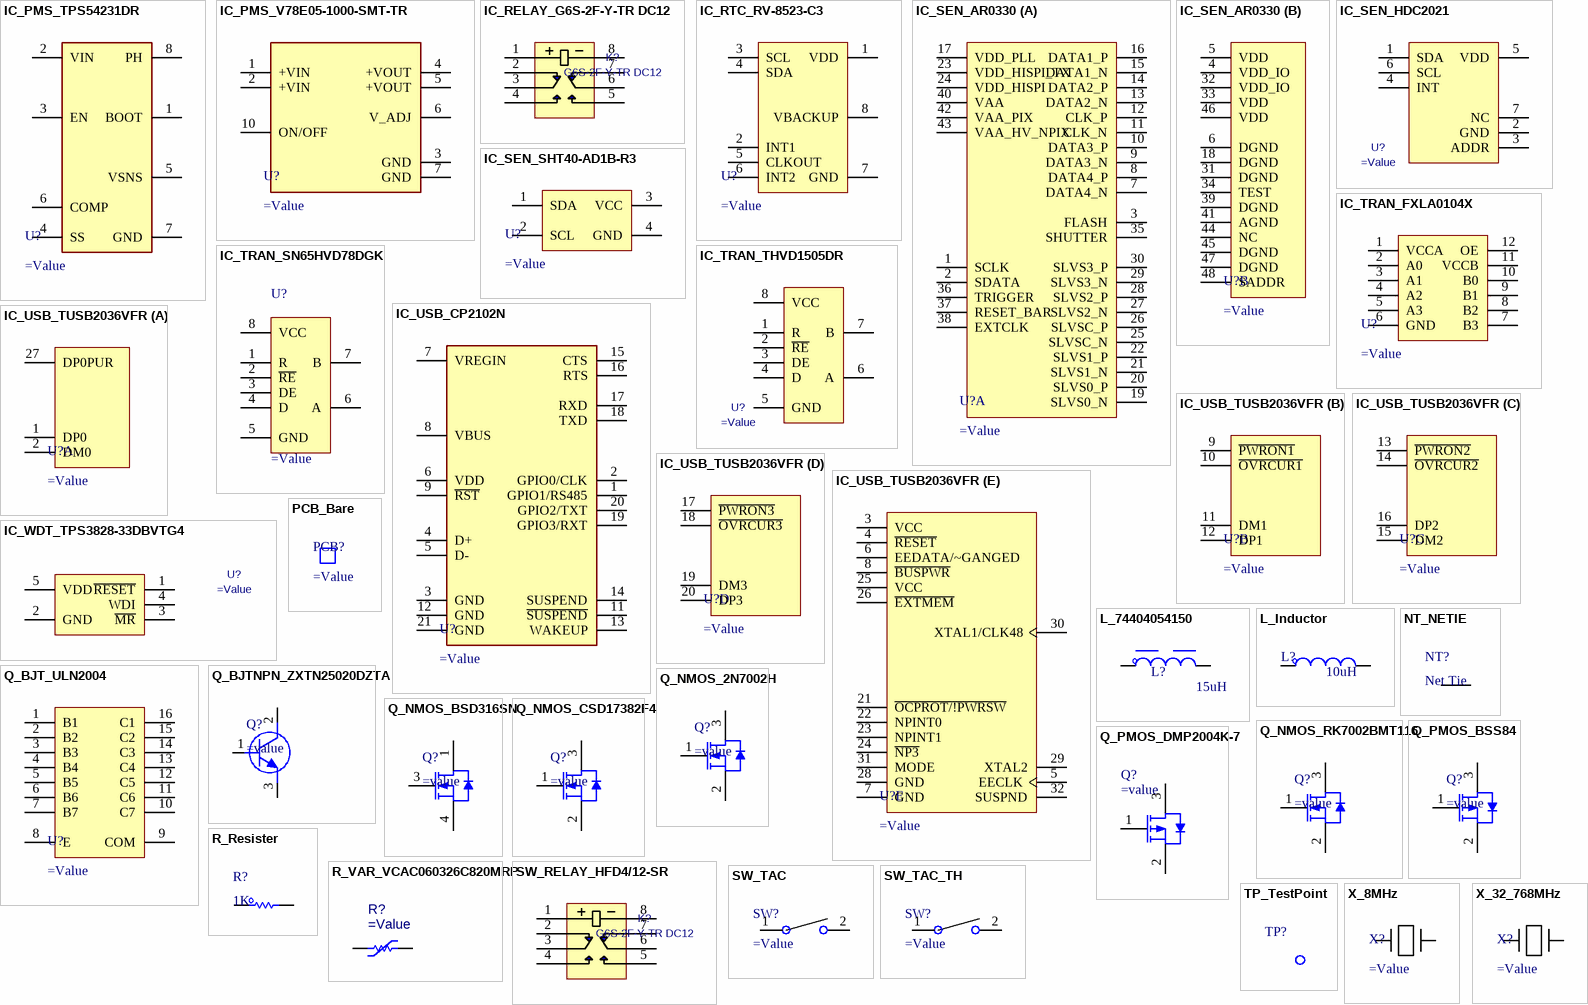
[diagram p6: symbols IC_PMS_TPS54231DR to X_32_768MHz]

## IC_PMS_TPS54231DR
designator U?
IC REG BUCK ADJUSTABLE 2A 8SOIC; PartNumber: TPS54231DR; Manufacturer: Texas Instruments; Value: TPS54231DR; PartID: 595-TPS54231DR; PackageReference: 8-SOIC; Value2: *; Value3: *
footprint SO-8_STM
pins: 1 BOOT, 2 VIN, 3 EN, 4 SS, 5 VSNS, 6 COMP, 7 GND, 8 PH

## IC_PMS_V78E05-1000-SMT-TR
designator U?
DC DC CONVERTER 5V 5W; PartNumber: V78E05-1000-SMT-TR; Manufacturer: CUI Inc.; Value: V78E05-1000-SMT-TR; PartID: 102-5033-1-ND; PackageReference: SMD-10; Value2: *; Value3: *
footprint CONV_V78E05-1000-SMT-TR
pins: 1 +VIN, 2 +VIN, 3 GND, 4 +VOUT, 5 +VOUT, 6 V_ADJ, 7 GND, 10 ON/OFF

## IC_RELAY_G6S-2F-Y-TR DC12
designator K?, comment G6S-2F-Y-TR DC12
RELAY TELECOM DPDT 2A 12VDC; Manufacturer: Omron; Value: G6S-2F-Y-TR DC12; PackageReference: *; PartID: G6S2FYTRDC12BYOMRCT-ND; PartNumber: G6S-2F-Y-TR DC12
footprint RELAY_G6S-2F DC3
pins: 1, 2, 3, 4, 5, 6, 7, 8